# Altium integrated library Altera FLEX 10K.IntLib: 292 symbols (part 12 of 37)
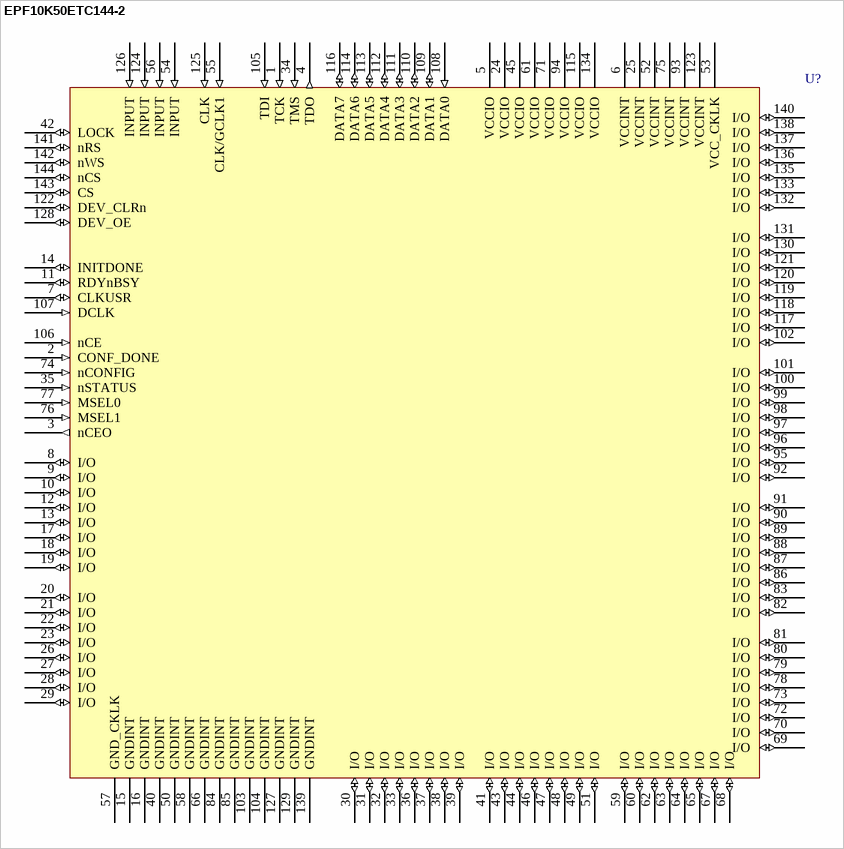
[diagram p410: symbol EPF10K50ETC144-2]

## EPF10K50ETC144-2
designator U?
FLEX EPF10K50E 2.5V Embedded PLD, 102 User IO Pins, 144-Pin TQFP, Speed Grade 2, Commercial Grade; Published: 17-Jul-2002; LatestRevisionDate: 13-Apr-2006; LatestRevisionNote: IPC-7351 Footprint Added.; DatasheetVersion: ver2.5, Jan-2003; PackageVersion: ver14.1, Oct-2005; PackageReference: TQFP144; Publisher: Altium Limited; PackageDescription: 144-Pin Plastic Thin Quad Flat Pack (TQFP144); Code_JEDEC: MS-026-BFB; ComponentLink1Description: Manufacturer Link; ComponentLink1URL: http://www.altera.com/products/devices/flex10k/f10-index.html; ComponentLink2Description: Datasheet; ComponentLink2URL: http://www.altera.com/literature/ds/dsf10ke.pdf
footprint TQFP144_N (Thin QFP, 144-Leads, Body 20x20mm, Pitch 0.5mm, IPC Medium Density)
footprint TQFP144_L (Thin QFP, 144-Leads, Body 20x20mm, Pitch 0.5mm, IPC High Density)
footprint TQFP144_M (Thin QFP, 144-Leads, Body 20x20mm, Pitch 0.5mm, IPC Low Density)
3D model EPF10K50E-TQFP144 (144-Pin Plastic Thin Quad Flat Pack (TQFP144))
pins: 1 TCK (in), 2 CONF_DONE (in), 3 nCEO (out), 4 TDO (out), 5 VCCIO (power), 6 VCCINT (power), 7 CLKUSR (io), 8 I/O (io), 9 I/O (io), 10 I/O (io), 11 RDYnBSY (io), 12 I/O (io), 13 I/O (io), 14 INITDONE (io), 15 GNDINT (power), 16 GNDINT (power), 17 I/O (io), 18 I/O (io), 19 I/O (io), 20 I/O (io), 21 I/O (io), 22 I/O (io), 23 I/O (io), 24 VCCIO (power), 25 VCCINT (power), 26 I/O (io), 27 I/O (io), 28 I/O (io), 29 I/O (io), 30 I/O (io), 31 I/O (io), 32 I/O (io), 33 I/O (io), 34 TMS (in), 35 nSTATUS (in), 36 I/O (io), 37 I/O (io), 38 I/O (io), 39 I/O (io), 40 GNDINT (power), 41 I/O (io), 42 LOCK (io), 43 I/O (io), 44 I/O (io), 45 VCCIO (power), 46 I/O (io), 47 I/O (io), 48 I/O (io), 49 I/O (io), 50 GNDINT (power), 51 I/O (io), 52 VCCINT (power), 53 VCC_CKLK (power), 54 INPUT (in), 55 CLK/GCLK1 (in), 56 INPUT (in), 57 GND_CKLK (power), 58 GNDINT (power), 59 I/O (io), 60 I/O (io), 61 VCCIO (power), 62 I/O (io), 63 I/O (io), 64 I/O (io), 65 I/O (io), 66 GNDINT (power), 67 I/O (io), 68 I/O (io), 69 I/O (io), 70 I/O (io), 71 VCCIO (power), 72 I/O (io), 73 I/O (io), 74 nCONFIG (in), 75 VCCINT (power), 76 MSEL1 (in), 77 MSEL0 (in), 78 I/O (io), 79 I/O (io), 80 I/O (io), 81 I/O (io), 82 I/O (io), 83 I/O (io), 84 GNDINT (power), 85 GNDINT (power), 86 I/O (io), 87 I/O (io), 88 I/O (io), 89 I/O (io), 90 I/O (io), 91 I/O (io), 92 I/O (io), 93 VCCINT (power), 94 VCCIO (power), 95 I/O (io), 96 I/O (io), 97 I/O (io), 98 I/O (io), 99 I/O (io), 100 I/O (io), 101 I/O (io), 102 I/O (io), 103 GNDINT (power), 104 GNDINT (power), 105 TDI (in), 106 nCE (in), 107 DCLK (in), 108 DATA0 (in), 109 DATA1 (io), 110 DATA2 (io), 111 DATA3 (io), 112 DATA4 (io), 113 DATA5 (io), 114 DATA6 (io), 115 VCCIO (power), 116 DATA7 (io), 117 I/O (io), 118 I/O (io), 119 I/O (io), 120 I/O (io), 121 I/O (io), 122 DEV_CLRn (io), 123 VCCINT (power), 124 INPUT (in), 125 CLK (in), 126 INPUT (in), 127 GNDINT (power), 128 DEV_OE (io), 129 GNDINT (power), 130 I/O (io), 131 I/O (io), 132 I/O (io), 133 I/O (io), 134 VCCIO (power), 135 I/O (io), 136 I/O (io), 137 I/O (io), 138 I/O (io), 139 GNDINT (power), 140 I/O (io), 141 nRS (io), 142 nWS (io), 143 CS (io), 144 nCS (io)

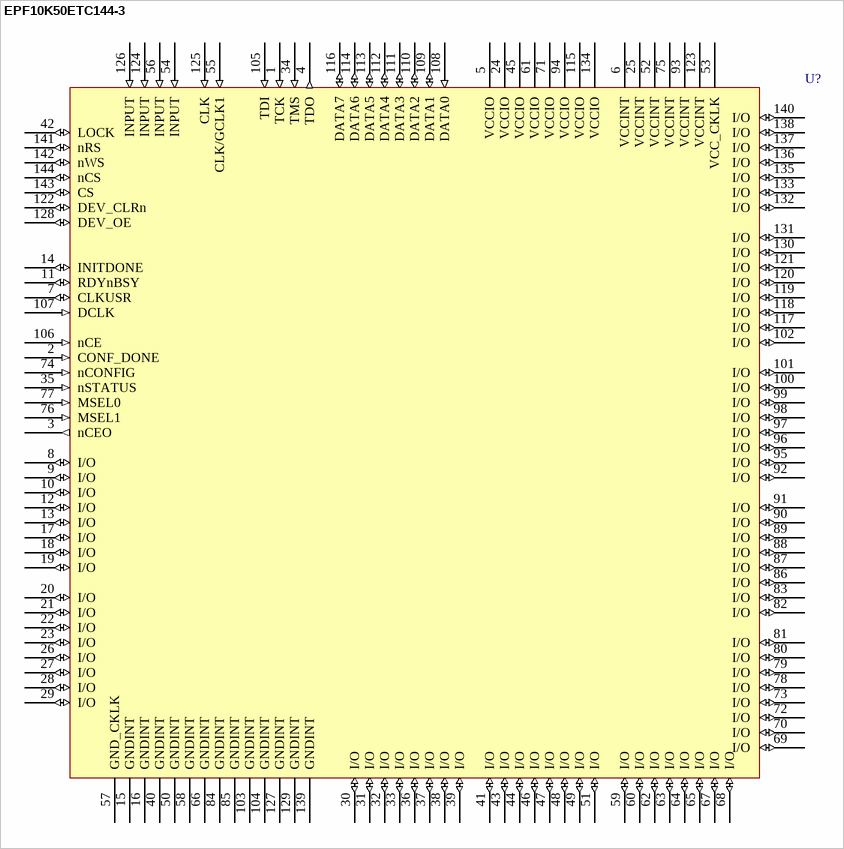
[diagram p113: symbol EPF10K50ETC144-3]

## EPF10K50ETC144-3
designator U?
FLEX EPF10K50E 2.5V Embedded PLD, 102 User IO Pins, 144-Pin TQFP, Speed Grade 3, Commercial Grade; Published: 17-Jul-2002; LatestRevisionDate: 13-Apr-2006; LatestRevisionNote: IPC-7351 Footprint Added.; DatasheetVersion: ver2.5, Jan-2003; PackageVersion: ver14.1, Oct-2005; PackageReference: TQFP144; Publisher: Altium Limited; PackageDescription: 144-Pin Plastic Thin Quad Flat Pack (TQFP144); Code_JEDEC: MS-026-BFB; ComponentLink1Description: Manufacturer Link; ComponentLink1URL: http://www.altera.com/products/devices/flex10k/f10-index.html; ComponentLink2Description: Datasheet; ComponentLink2URL: http://www.altera.com/literature/ds/dsf10ke.pdf
footprint TQFP144_N (Thin QFP, 144-Leads, Body 20x20mm, Pitch 0.5mm, IPC Medium Density)
footprint TQFP144_L (Thin QFP, 144-Leads, Body 20x20mm, Pitch 0.5mm, IPC High Density)
footprint TQFP144_M (Thin QFP, 144-Leads, Body 20x20mm, Pitch 0.5mm, IPC Low Density)
3D model EPF10K50E-TQFP144 (144-Pin Plastic Thin Quad Flat Pack (TQFP144))
pins: 1 TCK (in), 2 CONF_DONE (in), 3 nCEO (out), 4 TDO (out), 5 VCCIO (power), 6 VCCINT (power), 7 CLKUSR (io), 8 I/O (io), 9 I/O (io), 10 I/O (io), 11 RDYnBSY (io), 12 I/O (io), 13 I/O (io), 14 INITDONE (io), 15 GNDINT (power), 16 GNDINT (power), 17 I/O (io), 18 I/O (io), 19 I/O (io), 20 I/O (io), 21 I/O (io), 22 I/O (io), 23 I/O (io), 24 VCCIO (power), 25 VCCINT (power), 26 I/O (io), 27 I/O (io), 28 I/O (io), 29 I/O (io), 30 I/O (io), 31 I/O (io), 32 I/O (io), 33 I/O (io), 34 TMS (in), 35 nSTATUS (in), 36 I/O (io), 37 I/O (io), 38 I/O (io), 39 I/O (io), 40 GNDINT (power), 41 I/O (io), 42 LOCK (io), 43 I/O (io), 44 I/O (io), 45 VCCIO (power), 46 I/O (io), 47 I/O (io), 48 I/O (io), 49 I/O (io), 50 GNDINT (power), 51 I/O (io), 52 VCCINT (power), 53 VCC_CKLK (power), 54 INPUT (in), 55 CLK/GCLK1 (in), 56 INPUT (in), 57 GND_CKLK (power), 58 GNDINT (power), 59 I/O (io), 60 I/O (io), 61 VCCIO (power), 62 I/O (io), 63 I/O (io), 64 I/O (io), 65 I/O (io), 66 GNDINT (power), 67 I/O (io), 68 I/O (io), 69 I/O (io), 70 I/O (io), 71 VCCIO (power), 72 I/O (io), 73 I/O (io), 74 nCONFIG (in), 75 VCCINT (power), 76 MSEL1 (in), 77 MSEL0 (in), 78 I/O (io), 79 I/O (io), 80 I/O (io), 81 I/O (io), 82 I/O (io), 83 I/O (io), 84 GNDINT (power), 85 GNDINT (power), 86 I/O (io), 87 I/O (io), 88 I/O (io), 89 I/O (io), 90 I/O (io), 91 I/O (io), 92 I/O (io), 93 VCCINT (power), 94 VCCIO (power), 95 I/O (io), 96 I/O (io), 97 I/O (io), 98 I/O (io), 99 I/O (io), 100 I/O (io), 101 I/O (io), 102 I/O (io), 103 GNDINT (power), 104 GNDINT (power), 105 TDI (in), 106 nCE (in), 107 DCLK (in), 108 DATA0 (in), 109 DATA1 (io), 110 DATA2 (io), 111 DATA3 (io), 112 DATA4 (io), 113 DATA5 (io), 114 DATA6 (io), 115 VCCIO (power), 116 DATA7 (io), 117 I/O (io), 118 I/O (io), 119 I/O (io), 120 I/O (io), 121 I/O (io), 122 DEV_CLRn (io), 123 VCCINT (power), 124 INPUT (in), 125 CLK (in), 126 INPUT (in), 127 GNDINT (power), 128 DEV_OE (io), 129 GNDINT (power), 130 I/O (io), 131 I/O (io), 132 I/O (io), 133 I/O (io), 134 VCCIO (power), 135 I/O (io), 136 I/O (io), 137 I/O (io), 138 I/O (io), 139 GNDINT (power), 140 I/O (io), 141 nRS (io), 142 nWS (io), 143 CS (io), 144 nCS (io)

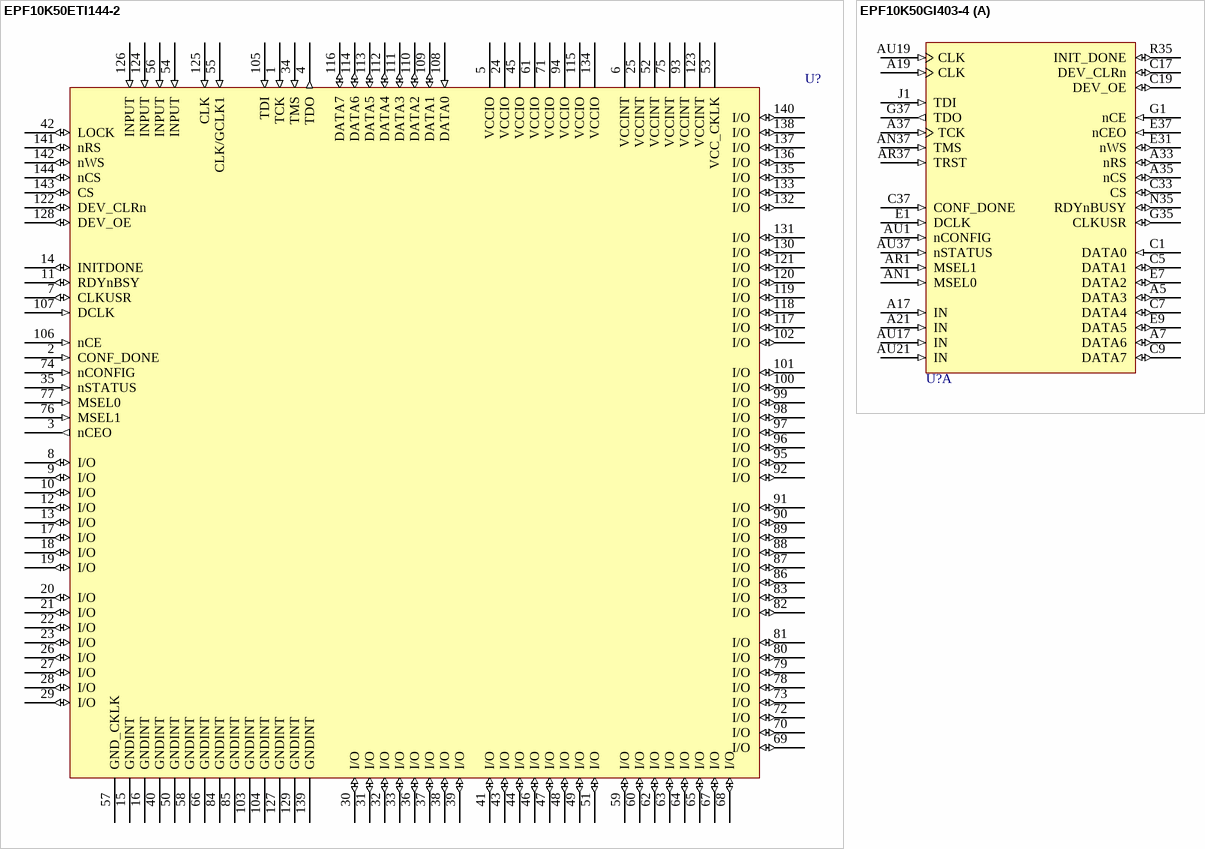
[diagram p114: symbols EPF10K50ETI144-2 to EPF10K50GI403-4]

## EPF10K50ETI144-2
designator U?
FLEX EPF10K50E 2.5V Embedded PLD, 102 User IO Pins, 144-Pin TQFP, Speed Grade 2, Industrial Grade; Published: 17-Jul-2002; LatestRevisionDate: 13-Apr-2006; LatestRevisionNote: IPC-7351 Footprint Added.; DatasheetVersion: ver2.5, Jan-2003; PackageVersion: ver14.1, Oct-2005; PackageReference: TQFP144; Publisher: Altium Limited; PackageDescription: 144-Pin Plastic Thin Quad Flat Pack (TQFP144); Code_JEDEC: MS-026-BFB; ComponentLink1Description: Manufacturer Link; ComponentLink1URL: http://www.altera.com/products/devices/flex10k/f10-index.html; ComponentLink2Description: Datasheet; ComponentLink2URL: http://www.altera.com/literature/ds/dsf10ke.pdf
footprint TQFP144_N (Thin QFP, 144-Leads, Body 20x20mm, Pitch 0.5mm, IPC Medium Density)
footprint TQFP144_L (Thin QFP, 144-Leads, Body 20x20mm, Pitch 0.5mm, IPC High Density)
footprint TQFP144_M (Thin QFP, 144-Leads, Body 20x20mm, Pitch 0.5mm, IPC Low Density)
3D model EPF10K50E-TQFP144 (144-Pin Plastic Thin Quad Flat Pack (TQFP144))
pins: 1 TCK (in), 2 CONF_DONE (in), 3 nCEO (out), 4 TDO (out), 5 VCCIO (power), 6 VCCINT (power), 7 CLKUSR (io), 8 I/O (io), 9 I/O (io), 10 I/O (io), 11 RDYnBSY (io), 12 I/O (io), 13 I/O (io), 14 INITDONE (io), 15 GNDINT (power), 16 GNDINT (power), 17 I/O (io), 18 I/O (io), 19 I/O (io), 20 I/O (io), 21 I/O (io), 22 I/O (io), 23 I/O (io), 24 VCCIO (power), 25 VCCINT (power), 26 I/O (io), 27 I/O (io), 28 I/O (io), 29 I/O (io), 30 I/O (io), 31 I/O (io), 32 I/O (io), 33 I/O (io), 34 TMS (in), 35 nSTATUS (in), 36 I/O (io), 37 I/O (io), 38 I/O (io), 39 I/O (io), 40 GNDINT (power), 41 I/O (io), 42 LOCK (io), 43 I/O (io), 44 I/O (io), 45 VCCIO (power), 46 I/O (io), 47 I/O (io), 48 I/O (io), 49 I/O (io), 50 GNDINT (power), 51 I/O (io), 52 VCCINT (power), 53 VCC_CKLK (power), 54 INPUT (in), 55 CLK/GCLK1 (in), 56 INPUT (in), 57 GND_CKLK (power), 58 GNDINT (power), 59 I/O (io), 60 I/O (io), 61 VCCIO (power), 62 I/O (io), 63 I/O (io), 64 I/O (io), 65 I/O (io), 66 GNDINT (power), 67 I/O (io), 68 I/O (io), 69 I/O (io), 70 I/O (io), 71 VCCIO (power), 72 I/O (io), 73 I/O (io), 74 nCONFIG (in), 75 VCCINT (power), 76 MSEL1 (in), 77 MSEL0 (in), 78 I/O (io), 79 I/O (io), 80 I/O (io), 81 I/O (io), 82 I/O (io), 83 I/O (io), 84 GNDINT (power), 85 GNDINT (power), 86 I/O (io), 87 I/O (io), 88 I/O (io), 89 I/O (io), 90 I/O (io), 91 I/O (io), 92 I/O (io), 93 VCCINT (power), 94 VCCIO (power), 95 I/O (io), 96 I/O (io), 97 I/O (io), 98 I/O (io), 99 I/O (io), 100 I/O (io), 101 I/O (io), 102 I/O (io), 103 GNDINT (power), 104 GNDINT (power), 105 TDI (in), 106 nCE (in), 107 DCLK (in), 108 DATA0 (in), 109 DATA1 (io), 110 DATA2 (io), 111 DATA3 (io), 112 DATA4 (io), 113 DATA5 (io), 114 DATA6 (io), 115 VCCIO (power), 116 DATA7 (io), 117 I/O (io), 118 I/O (io), 119 I/O (io), 120 I/O (io), 121 I/O (io), 122 DEV_CLRn (io), 123 VCCINT (power), 124 INPUT (in), 125 CLK (in), 126 INPUT (in), 127 GNDINT (power), 128 DEV_OE (io), 129 GNDINT (power), 130 I/O (io), 131 I/O (io), 132 I/O (io), 133 I/O (io), 134 VCCIO (power), 135 I/O (io), 136 I/O (io), 137 I/O (io), 138 I/O (io), 139 GNDINT (power), 140 I/O (io), 141 nRS (io), 142 nWS (io), 143 CS (io), 144 nCS (io)

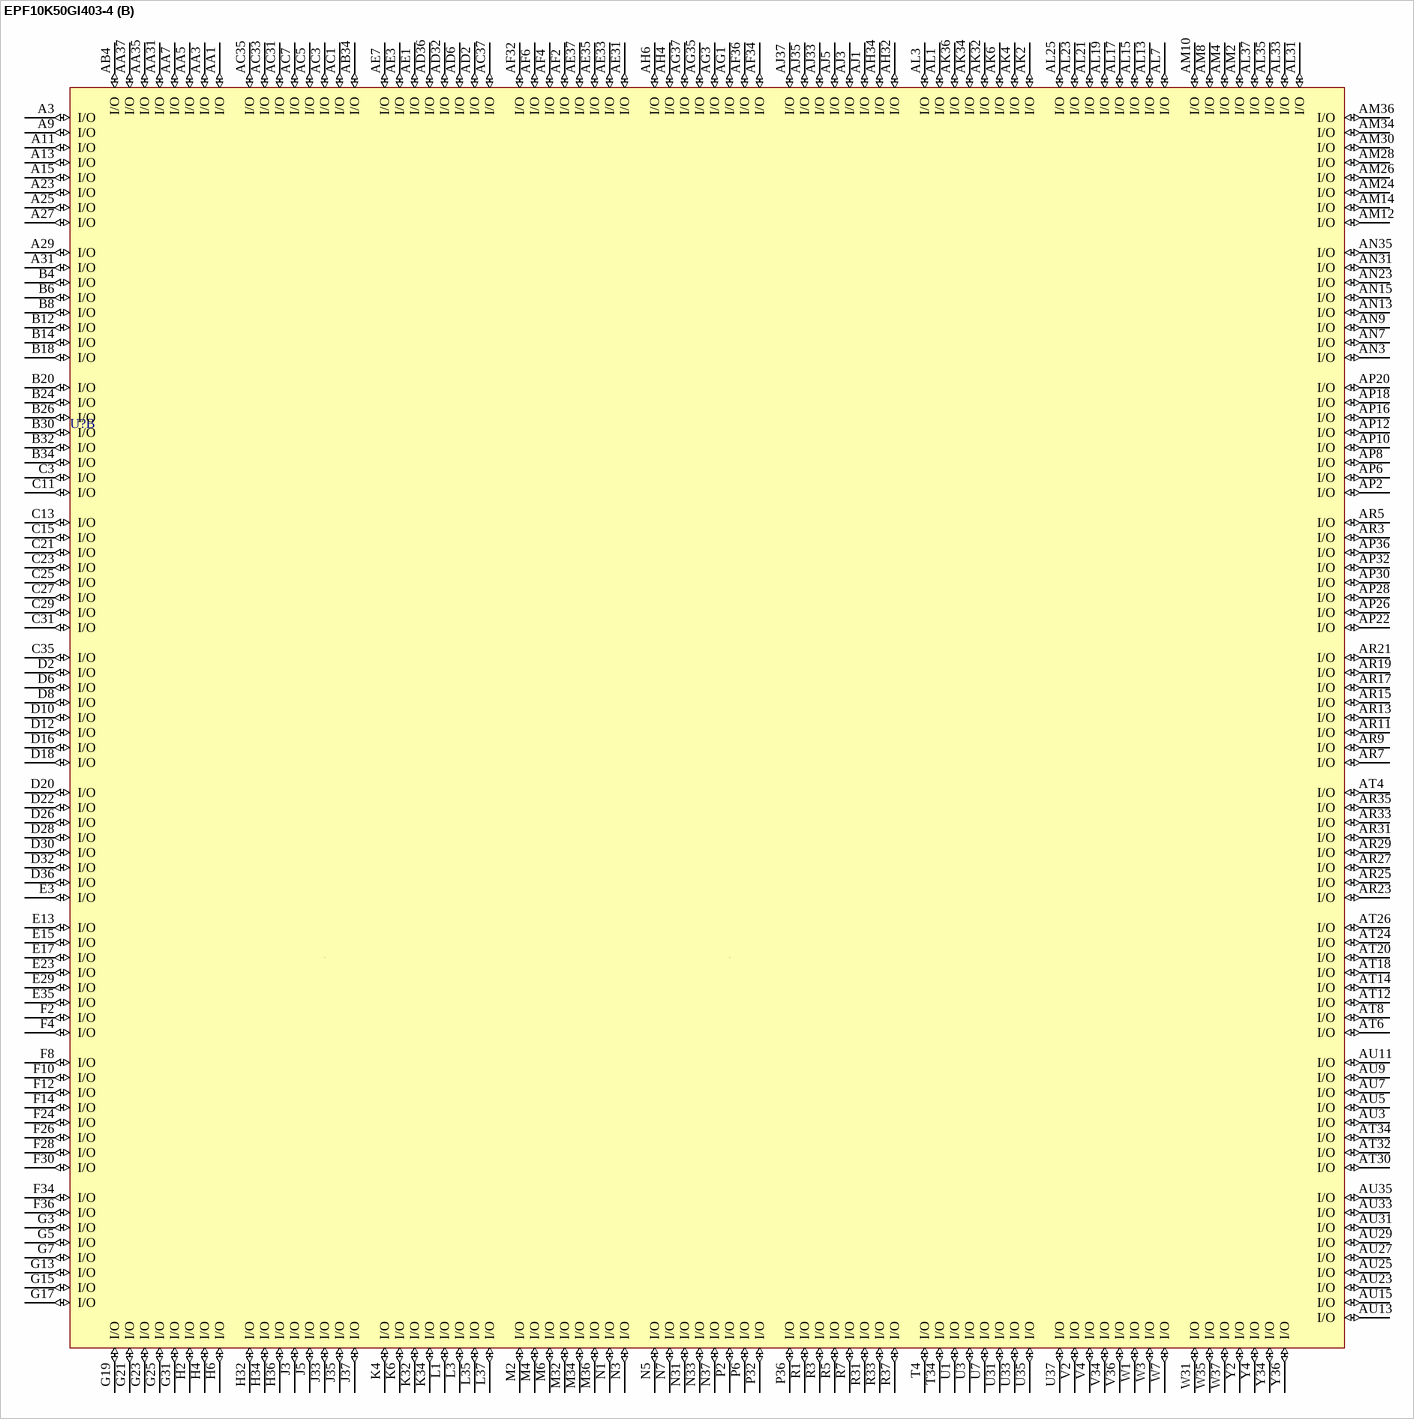
[diagram p115: symbol EPF10K50GI403-4]

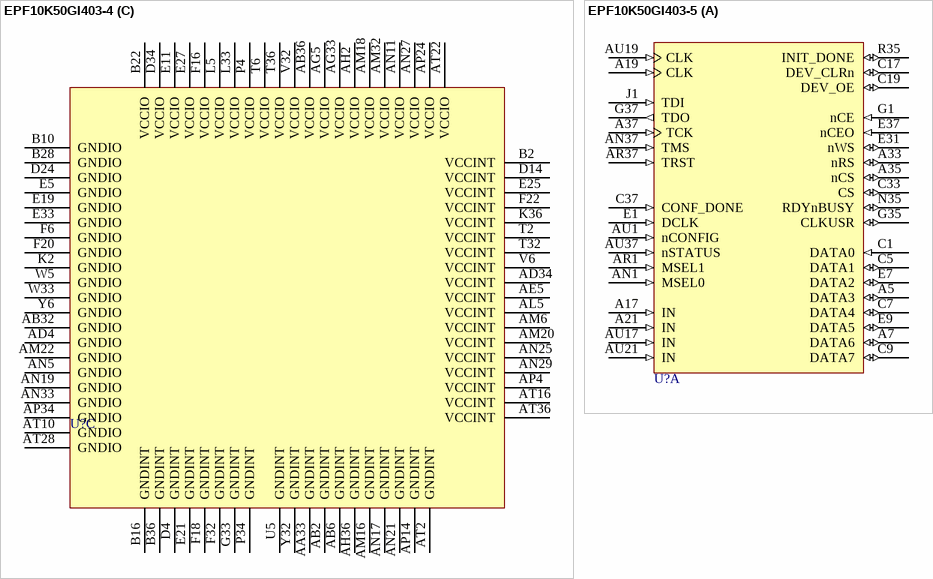
[diagram p116: symbols EPF10K50GI403-4 to EPF10K50GI403-5]

## EPF10K50GI403-4
designator U?
FLEX EPF10K50 5.0V Embedded PLD, 310 User IO Pins, 403-Pin PGA, Speed Grade 4, Industrial Grade; Published: 24-Nov-2000; LatestRevisionDate: 17-Jul-2002; LatestRevisionNote: Re-released for DXP Platform.; DatasheetVersion: Jun-1996; PackageVersion: ver14.1, Oct-2005; PackageReference: PGA403; Publisher: Altium Limited; PackageDescription: 403-Pin Ceramic Pin Grid Array (PGA403); Code_JEDEC: MO-128-AL; ComponentLink1Description: Manufacturer Link; ComponentLink1URL: http://www.altera.com/products/devices/flex10k/f10-index.html; ComponentLink2Description: Datasheet; ComponentLink2URL: http://www.altera.com/literature/ds/dsf10k.pdf
footprint PGA403 (PGA, 402-Leads, Body 50x50mm, Pitch 2.54mm)
3D model EPF10K50-PGA403 (403-Pin Ceramic Pin Grid Array (PGA403))
part A pins: A5 DATA3 (io), A7 DATA6 (io), A17 IN (in), A19 CLK (in), A21 IN (in), A33 nRS (io), A35 nCS (io), A37 TCK (in), AN1 MSEL0 (in), AN37 TMS (in), AR1 MSEL1 (in), AR37 TRST (in), AU1 nCONFIG (in), AU17 IN (in), AU19 CLK (in), AU21 IN (in), AU37 nSTATUS (in), C1 DATA0 (in), C5 DATA1 (io), C7 DATA4 (io), C9 DATA7 (io), C17 DEV_CLRn (io), C19 DEV_OE (io), C33 CS (io), C37 CONF_DONE (in), E1 DCLK (in), E7 DATA2 (io), E9 DATA5 (io), E31 nWS (io), E37 nCEO (in), G1 nCE (in), G35 CLKUSR (io), G37 TDO (out), J1 TDI (in), N35 RDYnBUSY (io), R35 INIT_DONE (io)
part B pins: A3 I/O (io), A9 I/O (io), A11 I/O (io), A13 I/O (io), A15 I/O (io), A23 I/O (io), A25 I/O (io), A27 I/O (io), A29 I/O (io), A31 I/O (io), AA1 I/O (io), AA3 I/O (io), AA5 I/O (io), AA7 I/O (io), AA31 I/O (io), AA35 I/O (io), AA37 I/O (io), AB4 I/O (io), AB34 I/O (io), AC1 I/O (io), AC3 I/O (io), AC5 I/O (io), AC7 I/O (io), AC31 I/O (io), AC33 I/O (io), AC35 I/O (io), AC37 I/O (io), AD2 I/O (io), AD6 I/O (io), AD32 I/O (io), AD36 I/O (io), AE1 I/O (io), AE3 I/O (io), AE7 I/O (io), AE31 I/O (io), AE33 I/O (io), AE35 I/O (io), AE37 I/O (io), AF2 I/O (io), AF4 I/O (io), AF6 I/O (io), AF32 I/O (io), AF34 I/O (io), AF36 I/O (io), AG1 I/O (io), AG3 I/O (io), AG35 I/O (io), AG37 I/O (io), AH4 I/O (io), AH6 I/O (io), AH32 I/O (io), AH34 I/O (io), AJ1 I/O (io), AJ3 I/O (io), AJ5 I/O (io), AJ33 I/O (io), AJ35 I/O (io), AJ37 I/O (io), AK2 I/O (io), AK4 I/O (io), AK6 I/O (io), AK32 I/O (io), AK34 I/O (io), AK36 I/O (io), AL1 I/O (io), AL3 I/O (io), AL7 I/O (io), AL13 I/O (io), AL15 I/O (io), AL17 I/O (io), AL19 I/O (io), AL21 I/O (io), AL23 I/O (io), AL25 I/O (io), AL31 I/O (io), AL33 I/O (io), AL35 I/O (io), AL37 I/O (io), AM2 I/O (io), AM4 I/O (io), AM8 I/O (io), AM10 I/O (io), AM12 I/O (io), AM14 I/O (io), AM24 I/O (io), AM26 I/O (io), AM28 I/O (io), AM30 I/O (io), AM34 I/O (io), AM36 I/O (io), AN3 I/O (io), AN7 I/O (io), AN9 I/O (io), AN13 I/O (io), AN15 I/O (io), AN23 I/O (io), AN31 I/O (io), AN35 I/O (io), AP2 I/O (io), AP6 I/O (io), AP8 I/O (io), AP10 I/O (io), AP12 I/O (io), AP16 I/O (io), AP18 I/O (io), AP20 I/O (io), AP22 I/O (io), AP26 I/O (io), AP28 I/O (io), AP30 I/O (io), AP32 I/O (io), AP36 I/O (io), AR3 I/O (io), AR5 I/O (io), AR7 I/O (io), AR9 I/O (io), AR11 I/O (io), AR13 I/O (io), AR15 I/O (io), AR17 I/O (io), AR19 I/O (io), AR21 I/O (io), AR23 I/O (io), AR25 I/O (io), AR27 I/O (io), AR29 I/O (io), AR31 I/O (io), AR33 I/O (io), AR35 I/O (io), AT4 I/O (io), AT6 I/O (io), AT8 I/O (io), AT12 I/O (io), AT14 I/O (io), AT18 I/O (io), AT20 I/O (io), AT24 I/O (io), AT26 I/O (io), AT30 I/O (io), AT32 I/O (io), AT34 I/O (io), AU3 I/O (io), AU5 I/O (io), AU7 I/O (io), AU9 I/O (io), AU11 I/O (io), AU13 I/O (io), AU15 I/O (io), AU23 I/O (io), AU25 I/O (io), AU27 I/O (io), AU29 I/O (io), AU31 I/O (io), AU33 I/O (io), AU35 I/O (io), B4 I/O (io), B6 I/O (io), B8 I/O (io), B12 I/O (io), B14 I/O (io), B18 I/O (io), B20 I/O (io), B24 I/O (io), B26 I/O (io), B30 I/O (io), B32 I/O (io), B34 I/O (io), C3 I/O (io), C11 I/O (io), C13 I/O (io), C15 I/O (io), C21 I/O (io), C23 I/O (io), C25 I/O (io), C27 I/O (io), C29 I/O (io), C31 I/O (io), C35 I/O (io), D2 I/O (io), D6 I/O (io), D8 I/O (io), D10 I/O (io), D12 I/O (io), D16 I/O (io), D18 I/O (io), D20 I/O (io), D22 I/O (io), D26 I/O (io), D28 I/O (io), D30 I/O (io), D32 I/O (io), D36 I/O (io), E3 I/O (io), E13 I/O (io), E15 I/O (io), E17 I/O (io), E23 I/O (io), E29 I/O (io), E35 I/O (io), F2 I/O (io), F4 I/O (io), F8 I/O (io), F10 I/O (io), F12 I/O (io), F14 I/O (io), F24 I/O (io), F26 I/O (io), F28 I/O (io), F30 I/O (io), F34 I/O (io), F36 I/O (io), G3 I/O (io), G5 I/O (io), G7 I/O (io), G13 I/O (io), G15 I/O (io), G17 I/O (io), G19 I/O (io), G21 I/O (io), G23 I/O (io), G25 I/O (io), G31 I/O (io), H2 I/O (io), H4 I/O (io), H6 I/O (io), H32 I/O (io), H34 I/O (io), H36 I/O (io), J3 I/O (io), J5 I/O (io), J33 I/O (io), J35 I/O (io), J37 I/O (io), K4 I/O (io), K6 I/O (io), K32 I/O (io), K34 I/O (io), L1 I/O (io), L3 I/O (io), L35 I/O (io), L37 I/O (io), M2 I/O (io), M4 I/O (io), M6 I/O (io), M32 I/O (io), M34 I/O (io), M36 I/O (io), N1 I/O (io), N3 I/O (io), N5 I/O (io), N7 I/O (io), N31 I/O (io), N33 I/O (io), N37 I/O (io), P2 I/O (io), P6 I/O (io), P32 I/O (io), P36 I/O (io), R1 I/O (io), R3 I/O (io), R5 I/O (io), R7 I/O (io), R31 I/O (io), R33 I/O (io), R37 I/O (io), T4 I/O (io), T34 I/O (io), U1 I/O (io), U3 I/O (io), U7 I/O (io), U31 I/O (io), U33 I/O (io), U35 I/O (io), U37 I/O (io), V2 I/O (io), V4 I/O (io), V34 I/O (io), V36 I/O (io), W1 I/O (io), W3 I/O (io), W7 I/O (io), W31 I/O (io), W35 I/O (io), W37 I/O (io), Y2 I/O (io), Y4 I/O (io), Y34 I/O (io), Y36 I/O (io)
part C pins: AA33 GNDINT (power), AB2 GNDINT (power), AB6 GNDINT (power), AB32 GNDIO (power), AB36 VCCIO (power), AD4 GNDIO (power), AD34 VCCINT (power), AE5 VCCINT (power), AG5 VCCIO (power), AG33 VCCIO (power), AH2 VCCIO (power), AH36 GNDINT (power), AL5 VCCINT (power), AM6 VCCINT (power), AM16 GNDINT (power), AM18 VCCIO (power), AM20 VCCINT (power), AM22 GNDIO (power), AM32 VCCIO (power), AN5 GNDIO (power), AN11 VCCIO (power), AN17 GNDINT (power), AN19 GNDIO (power), AN21 GNDINT (power), AN25 VCCINT (power), AN27 VCCIO (power), AN29 VCCINT (power), AN33 GNDIO (power), AP4 VCCINT (power), AP14 GNDINT (power), AP24 VCCIO (power), AP34 GNDIO (power), AT2 GNDINT (power), AT10 GNDIO (power), AT16 VCCINT (power), AT22 VCCIO (power), AT28 GNDIO (power), AT36 VCCINT (power), B2 VCCINT (power), B10 GNDIO (power), B16 GNDINT (power), B22 VCCIO (power), B28 GNDIO (power), B36 GNDINT (power), D4 GNDINT (power), D14 VCCINT (power), D24 GNDIO (power), D34 VCCIO (power), E5 GNDIO (power), E11 VCCIO (power), E19 GNDIO (power), E21 GNDINT (power), E25 VCCINT (power), E27 VCCIO (power), E33 GNDIO (power), F6 GNDIO (power), F16 VCCIO (power), F18 GNDINT (power), F20 GNDIO (power), F22 VCCINT (power), F32 GNDINT (power), G33 GNDINT (power), K2 GNDIO (power), K36 VCCINT (power), L5 VCCIO (power), L33 VCCIO (power), P4 VCCIO (power), P34 GNDINT (power), T2 VCCINT (power), T6 VCCIO (power), T32 VCCINT (power), T36 VCCIO (power), U5 GNDINT (power), V6 VCCINT (power), V32 VCCIO (power), W5 GNDIO (power), W33 GNDIO (power), Y6 GNDIO (power), Y32 GNDINT (power)

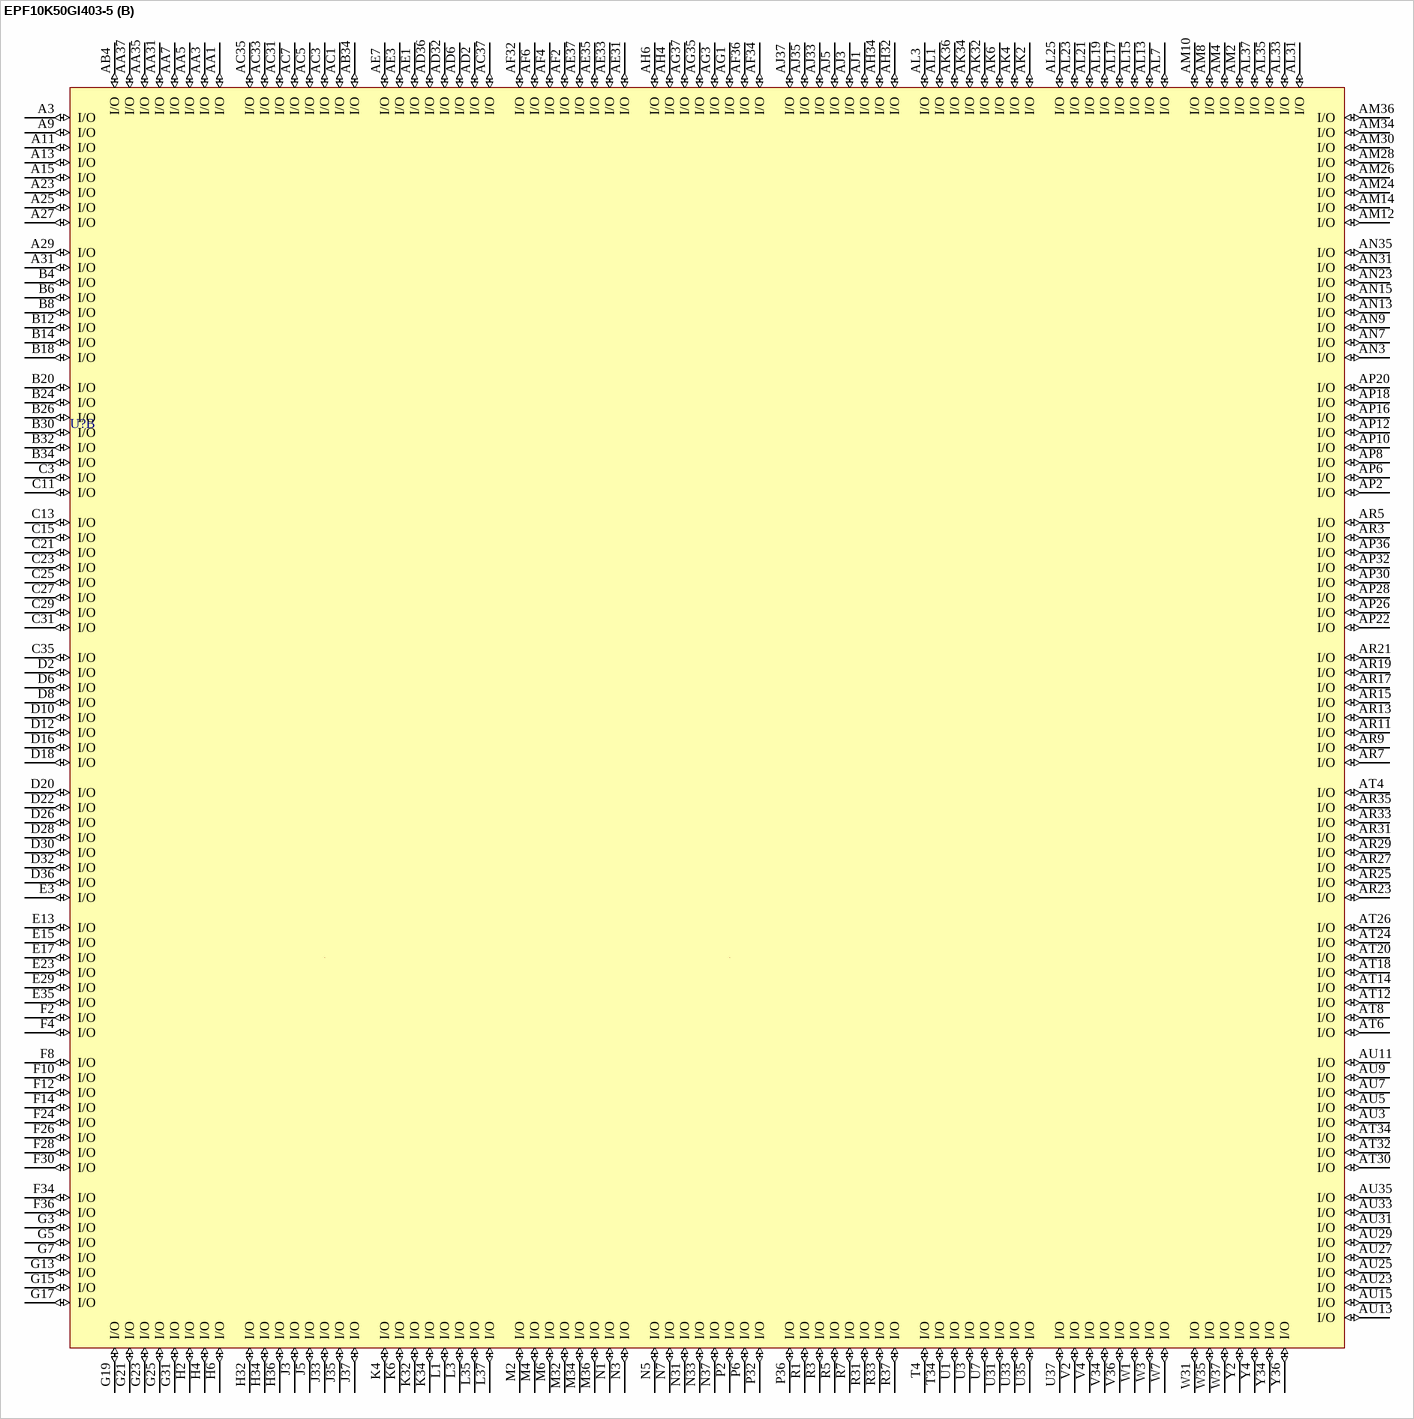
[diagram p117: symbol EPF10K50GI403-5]

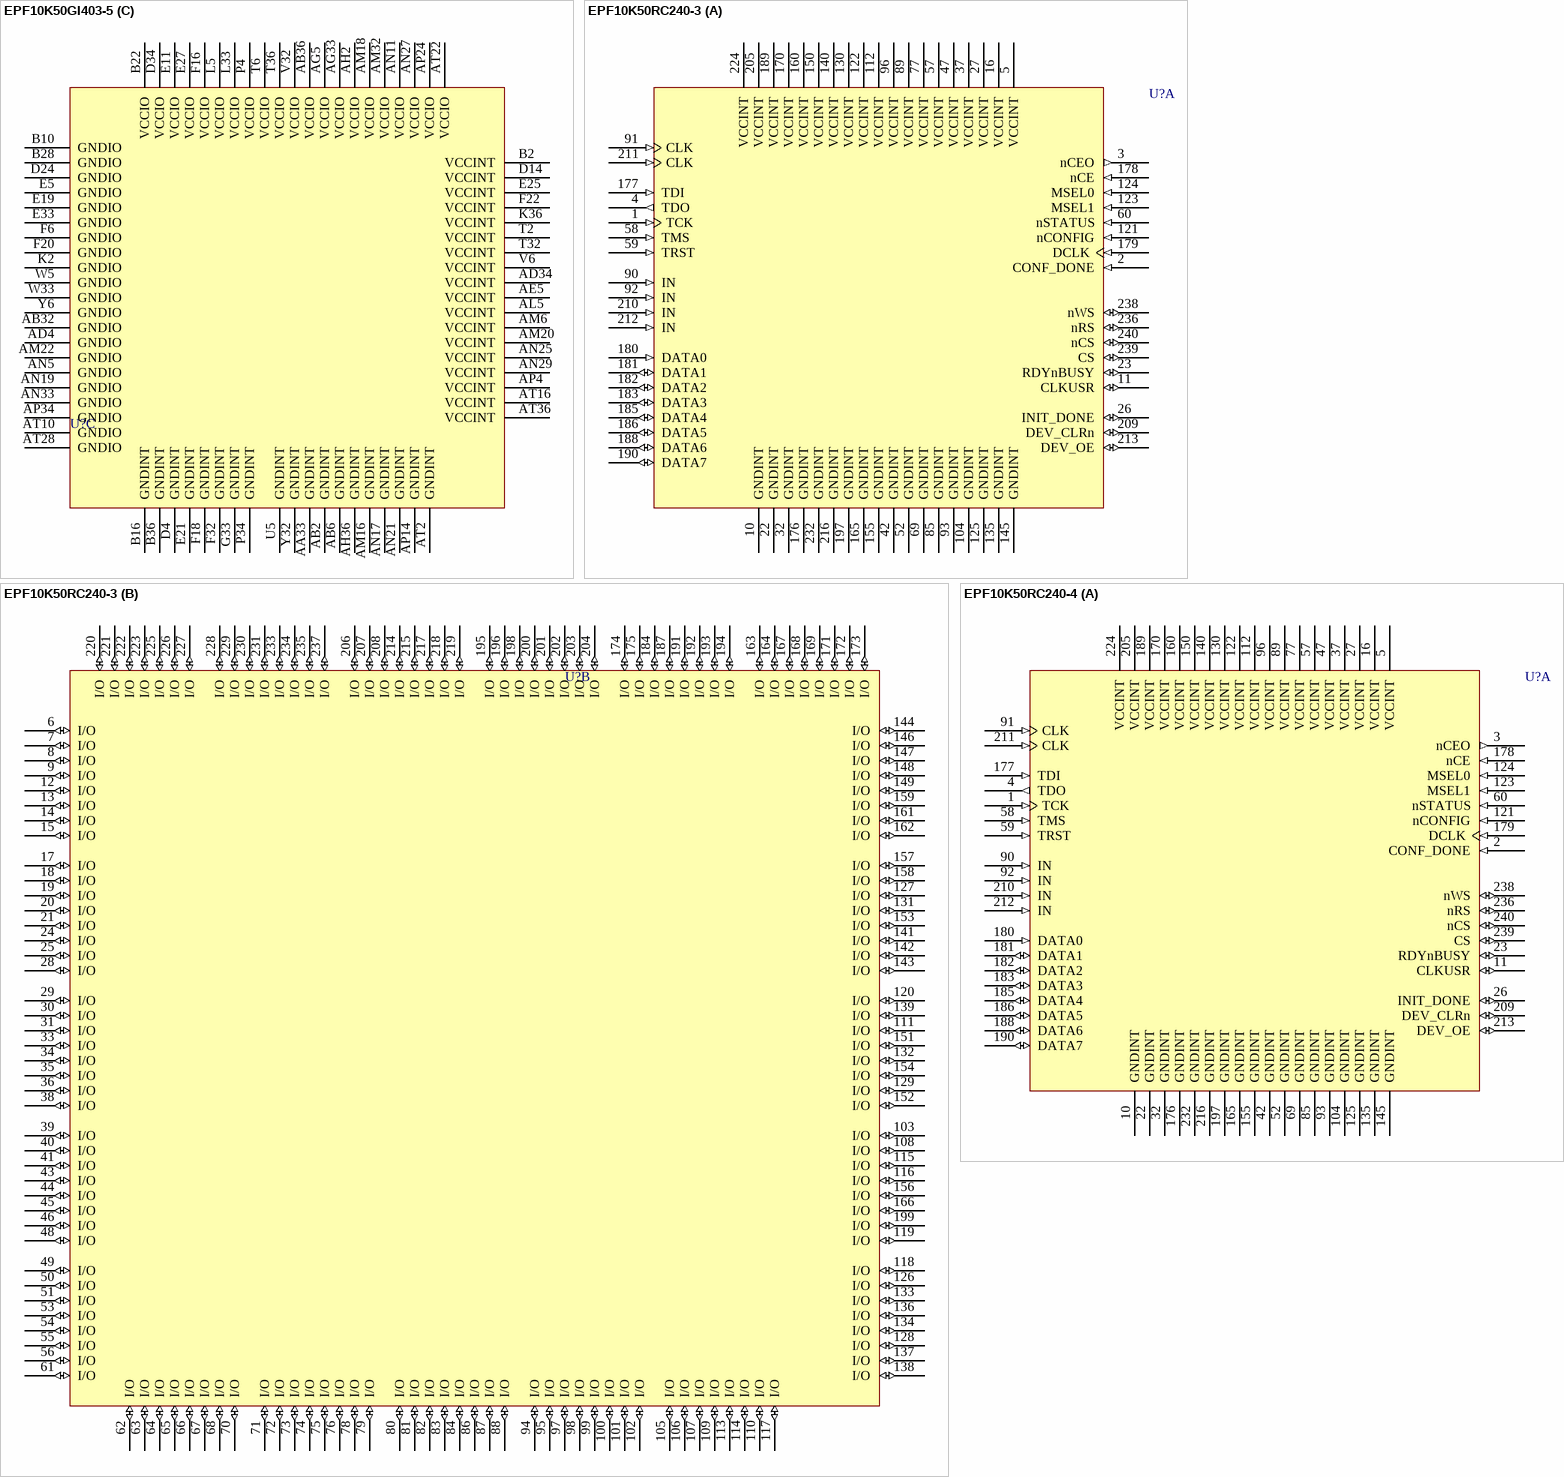
[diagram p118: symbols EPF10K50GI403-5 to EPF10K50RC240-4]

## EPF10K50GI403-5
designator U?
FLEX EPF10K50 5.0V Embedded PLD, 310 User IO Pins, 403-Pin PGA, Speed Grade 5, Industrial Grade; Published: 24-Nov-2000; LatestRevisionDate: 17-Jul-2002; LatestRevisionNote: Re-released for DXP Platform.; DatasheetVersion: Jun-1996; PackageVersion: ver14.1, Oct-2005; PackageReference: PGA403; Publisher: Altium Limited; PackageDescription: 403-Pin Ceramic Pin Grid Array (PGA403); Code_JEDEC: MO-128-AL; ComponentLink1Description: Manufacturer Link; ComponentLink1URL: http://www.altera.com/products/devices/flex10k/f10-index.html; ComponentLink2Description: Datasheet; ComponentLink2URL: http://www.altera.com/literature/ds/dsf10k.pdf
footprint PGA403 (PGA, 402-Leads, Body 50x50mm, Pitch 2.54mm)
3D model EPF10K50-PGA403 (403-Pin Ceramic Pin Grid Array (PGA403))
part A pins: A5 DATA3 (io), A7 DATA6 (io), A17 IN (in), A19 CLK (in), A21 IN (in), A33 nRS (io), A35 nCS (io), A37 TCK (in), AN1 MSEL0 (in), AN37 TMS (in), AR1 MSEL1 (in), AR37 TRST (in), AU1 nCONFIG (in), AU17 IN (in), AU19 CLK (in), AU21 IN (in), AU37 nSTATUS (in), C1 DATA0 (in), C5 DATA1 (io), C7 DATA4 (io), C9 DATA7 (io), C17 DEV_CLRn (io), C19 DEV_OE (io), C33 CS (io), C37 CONF_DONE (in), E1 DCLK (in), E7 DATA2 (io), E9 DATA5 (io), E31 nWS (io), E37 nCEO (in), G1 nCE (in), G35 CLKUSR (io), G37 TDO (out), J1 TDI (in), N35 RDYnBUSY (io), R35 INIT_DONE (io)
part B pins: A3 I/O (io), A9 I/O (io), A11 I/O (io), A13 I/O (io), A15 I/O (io), A23 I/O (io), A25 I/O (io), A27 I/O (io), A29 I/O (io), A31 I/O (io), AA1 I/O (io), AA3 I/O (io), AA5 I/O (io), AA7 I/O (io), AA31 I/O (io), AA35 I/O (io), AA37 I/O (io), AB4 I/O (io), AB34 I/O (io), AC1 I/O (io), AC3 I/O (io), AC5 I/O (io), AC7 I/O (io), AC31 I/O (io), AC33 I/O (io), AC35 I/O (io), AC37 I/O (io), AD2 I/O (io), AD6 I/O (io), AD32 I/O (io), AD36 I/O (io), AE1 I/O (io), AE3 I/O (io), AE7 I/O (io), AE31 I/O (io), AE33 I/O (io), AE35 I/O (io), AE37 I/O (io), AF2 I/O (io), AF4 I/O (io), AF6 I/O (io), AF32 I/O (io), AF34 I/O (io), AF36 I/O (io), AG1 I/O (io), AG3 I/O (io), AG35 I/O (io), AG37 I/O (io), AH4 I/O (io), AH6 I/O (io), AH32 I/O (io), AH34 I/O (io), AJ1 I/O (io), AJ3 I/O (io), AJ5 I/O (io), AJ33 I/O (io), AJ35 I/O (io), AJ37 I/O (io), AK2 I/O (io), AK4 I/O (io), AK6 I/O (io), AK32 I/O (io), AK34 I/O (io), AK36 I/O (io), AL1 I/O (io), AL3 I/O (io), AL7 I/O (io), AL13 I/O (io), AL15 I/O (io), AL17 I/O (io), AL19 I/O (io), AL21 I/O (io), AL23 I/O (io), AL25 I/O (io), AL31 I/O (io), AL33 I/O (io), AL35 I/O (io), AL37 I/O (io), AM2 I/O (io), AM4 I/O (io), AM8 I/O (io), AM10 I/O (io), AM12 I/O (io), AM14 I/O (io), AM24 I/O (io), AM26 I/O (io), AM28 I/O (io), AM30 I/O (io), AM34 I/O (io), AM36 I/O (io), AN3 I/O (io), AN7 I/O (io), AN9 I/O (io), AN13 I/O (io), AN15 I/O (io), AN23 I/O (io), AN31 I/O (io), AN35 I/O (io), AP2 I/O (io), AP6 I/O (io), AP8 I/O (io), AP10 I/O (io), AP12 I/O (io), AP16 I/O (io), AP18 I/O (io), AP20 I/O (io), AP22 I/O (io), AP26 I/O (io), AP28 I/O (io), AP30 I/O (io), AP32 I/O (io), AP36 I/O (io), AR3 I/O (io), AR5 I/O (io), AR7 I/O (io), AR9 I/O (io), AR11 I/O (io), AR13 I/O (io), AR15 I/O (io), AR17 I/O (io), AR19 I/O (io), AR21 I/O (io), AR23 I/O (io), AR25 I/O (io), AR27 I/O (io), AR29 I/O (io), AR31 I/O (io), AR33 I/O (io), AR35 I/O (io), AT4 I/O (io), AT6 I/O (io), AT8 I/O (io), AT12 I/O (io), AT14 I/O (io), AT18 I/O (io), AT20 I/O (io), AT24 I/O (io), AT26 I/O (io), AT30 I/O (io), AT32 I/O (io), AT34 I/O (io), AU3 I/O (io), AU5 I/O (io), AU7 I/O (io), AU9 I/O (io), AU11 I/O (io), AU13 I/O (io), AU15 I/O (io), AU23 I/O (io), AU25 I/O (io), AU27 I/O (io), AU29 I/O (io), AU31 I/O (io), AU33 I/O (io), AU35 I/O (io), B4 I/O (io), B6 I/O (io), B8 I/O (io), B12 I/O (io), B14 I/O (io), B18 I/O (io), B20 I/O (io), B24 I/O (io), B26 I/O (io), B30 I/O (io), B32 I/O (io), B34 I/O (io), C3 I/O (io), C11 I/O (io), C13 I/O (io), C15 I/O (io), C21 I/O (io), C23 I/O (io), C25 I/O (io), C27 I/O (io), C29 I/O (io), C31 I/O (io), C35 I/O (io), D2 I/O (io), D6 I/O (io), D8 I/O (io), D10 I/O (io), D12 I/O (io), D16 I/O (io), D18 I/O (io), D20 I/O (io), D22 I/O (io), D26 I/O (io), D28 I/O (io), D30 I/O (io), D32 I/O (io), D36 I/O (io), E3 I/O (io), E13 I/O (io), E15 I/O (io), E17 I/O (io), E23 I/O (io), E29 I/O (io), E35 I/O (io), F2 I/O (io), F4 I/O (io), F8 I/O (io), F10 I/O (io), F12 I/O (io), F14 I/O (io), F24 I/O (io), F26 I/O (io), F28 I/O (io), F30 I/O (io), F34 I/O (io), F36 I/O (io), G3 I/O (io), G5 I/O (io), G7 I/O (io), G13 I/O (io), G15 I/O (io), G17 I/O (io), G19 I/O (io), G21 I/O (io), G23 I/O (io), G25 I/O (io), G31 I/O (io), H2 I/O (io), H4 I/O (io), H6 I/O (io), H32 I/O (io), H34 I/O (io), H36 I/O (io), J3 I/O (io), J5 I/O (io), J33 I/O (io), J35 I/O (io), J37 I/O (io), K4 I/O (io), K6 I/O (io), K32 I/O (io), K34 I/O (io), L1 I/O (io), L3 I/O (io), L35 I/O (io), L37 I/O (io), M2 I/O (io), M4 I/O (io), M6 I/O (io), M32 I/O (io), M34 I/O (io), M36 I/O (io), N1 I/O (io), N3 I/O (io), N5 I/O (io), N7 I/O (io), N31 I/O (io), N33 I/O (io), N37 I/O (io), P2 I/O (io), P6 I/O (io), P32 I/O (io), P36 I/O (io), R1 I/O (io), R3 I/O (io), R5 I/O (io), R7 I/O (io), R31 I/O (io), R33 I/O (io), R37 I/O (io), T4 I/O (io), T34 I/O (io), U1 I/O (io), U3 I/O (io), U7 I/O (io), U31 I/O (io), U33 I/O (io), U35 I/O (io), U37 I/O (io), V2 I/O (io), V4 I/O (io), V34 I/O (io), V36 I/O (io), W1 I/O (io), W3 I/O (io), W7 I/O (io), W31 I/O (io), W35 I/O (io), W37 I/O (io), Y2 I/O (io), Y4 I/O (io), Y34 I/O (io), Y36 I/O (io)
part C pins: AA33 GNDINT (power), AB2 GNDINT (power), AB6 GNDINT (power), AB32 GNDIO (power), AB36 VCCIO (power), AD4 GNDIO (power), AD34 VCCINT (power), AE5 VCCINT (power), AG5 VCCIO (power), AG33 VCCIO (power), AH2 VCCIO (power), AH36 GNDINT (power), AL5 VCCINT (power), AM6 VCCINT (power), AM16 GNDINT (power), AM18 VCCIO (power), AM20 VCCINT (power), AM22 GNDIO (power), AM32 VCCIO (power), AN5 GNDIO (power), AN11 VCCIO (power), AN17 GNDINT (power), AN19 GNDIO (power), AN21 GNDINT (power), AN25 VCCINT (power), AN27 VCCIO (power), AN29 VCCINT (power), AN33 GNDIO (power), AP4 VCCINT (power), AP14 GNDINT (power), AP24 VCCIO (power), AP34 GNDIO (power), AT2 GNDINT (power), AT10 GNDIO (power), AT16 VCCINT (power), AT22 VCCIO (power), AT28 GNDIO (power), AT36 VCCINT (power), B2 VCCINT (power), B10 GNDIO (power), B16 GNDINT (power), B22 VCCIO (power), B28 GNDIO (power), B36 GNDINT (power), D4 GNDINT (power), D14 VCCINT (power), D24 GNDIO (power), D34 VCCIO (power), E5 GNDIO (power), E11 VCCIO (power), E19 GNDIO (power), E21 GNDINT (power), E25 VCCINT (power), E27 VCCIO (power), E33 GNDIO (power), F6 GNDIO (power), F16 VCCIO (power), F18 GNDINT (power), F20 GNDIO (power), F22 VCCINT (power), F32 GNDINT (power), G33 GNDINT (power), K2 GNDIO (power), K36 VCCINT (power), L5 VCCIO (power), L33 VCCIO (power), P4 VCCIO (power), P34 GNDINT (power), T2 VCCINT (power), T6 VCCIO (power), T32 VCCINT (power), T36 VCCIO (power), U5 GNDINT (power), V6 VCCINT (power), V32 VCCIO (power), W5 GNDIO (power), W33 GNDIO (power), Y6 GNDIO (power), Y32 GNDINT (power)

## EPF10K50RC240-3
designator U?
FLEX EPF10K50 5.0V Embedded PLD, 189 User IO Pins, 240-Pin RQFP, Speed Grade 3, Commercial Grade; Published: 24-Nov-2000; LatestRevisionDate: 13-Apr-2006; LatestRevisionNote: IPC-7351 Footprint Added.; DatasheetVersion: ver4.2, Jan-2003; PackageVersion: ver14.1, Oct-2005; PackageReference: RQFP240; Publisher: Altium Limited; PackageDescription: 240-Pin Power Quad Flat Pack (RQFP240); Code_JEDEC: MS-029-GA; ComponentLink1Description: Manufacturer Link; ComponentLink1URL: http://www.altera.com/products/devices/flex10k/f10-index.html; ComponentLink2Description: Datasheet; ComponentLink2URL: http://www.altera.com/literature/ds/dsf10k.pdf
footprint RQFP240_N (Shrink QFP, 240-Leads, Body 32x32mm, Pitch 0.5mm, IPC Medium Density)
footprint RQFP240_L (Shrink QFP, 240-Leads, Body 32x32mm, Pitch 0.5mm, IPC High Density)
footprint RQFP240_M (Shrink QFP, 240-Leads, Body 32x32mm, Pitch 0.5mm, IPC Low Density)
3D model EPF10K50-RQFP240 (240-Pin Power Quad Flat Pack (RQFP240))
part A pins: 1 TCK (in), 2 CONF_DONE (in), 3 nCEO (out), 4 TDO (out), 5 VCCINT (power), 10 GNDINT (power), 11 CLKUSR (io), 16 VCCINT (power), 22 GNDINT (power), 23 RDYnBUSY (io), 26 INIT_DONE (io), 27 VCCINT (power), 32 GNDINT (power), 37 VCCINT (power), 42 GNDINT (power), 47 VCCINT (power), 52 GNDINT (power), 57 VCCINT (power), 58 TMS (in), 59 TRST (in), 60 nSTATUS (in), 69 GNDINT (power), 77 VCCINT (power), 85 GNDINT (power), 89 VCCINT (power), 90 IN (in), 91 CLK (in), 92 IN (in), 93 GNDINT (power), 96 VCCINT (power), 104 GNDINT (power), 112 VCCINT (power), 121 nCONFIG (in), 122 VCCINT (power), 123 MSEL1 (in), 124 MSEL0 (in), 125 GNDINT (power), 130 VCCINT (power), 135 GNDINT (power), 140 VCCINT (power), 145 GNDINT (power), 150 VCCINT (power), 155 GNDINT (power), 160 VCCINT (power), 165 GNDINT (power), 170 VCCINT (power), 176 GNDINT (power), 177 TDI (in), 178 nCE (in), 179 DCLK (in), 180 DATA0 (in), 181 DATA1 (io), 182 DATA2 (io), 183 DATA3 (io), 185 DATA4 (io), 186 DATA5 (io), 188 DATA6 (io), 189 VCCINT (power), 190 DATA7 (io), 197 GNDINT (power), 205 VCCINT (power), 209 DEV_CLRn (io), 210 IN (in), 211 CLK (in), 212 IN (in), 213 DEV_OE (io), 216 GNDINT (power), 224 VCCINT (power), 232 GNDINT (power), 236 nRS (io), 238 nWS (io), 239 CS (io), 240 nCS (io)
part B pins: 6 I/O (io), 7 I/O (io), 8 I/O (io), 9 I/O (io), 12 I/O (io), 13 I/O (io), 14 I/O (io), 15 I/O (io), 17 I/O (io), 18 I/O (io), 19 I/O (io), 20 I/O (io), 21 I/O (io), 24 I/O (io), 25 I/O (io), 28 I/O (io), 29 I/O (io), 30 I/O (io), 31 I/O (io), 33 I/O (io), 34 I/O (io), 35 I/O (io), 36 I/O (io), 38 I/O (io), 39 I/O (io), 40 I/O (io), 41 I/O (io), 43 I/O (io), 44 I/O (io), 45 I/O (io), 46 I/O (io), 48 I/O (io), 49 I/O (io), 50 I/O (io), 51 I/O (io), 53 I/O (io), 54 I/O (io), 55 I/O (io), 56 I/O (io), 61 I/O (io), 62 I/O (io), 63 I/O (io), 64 I/O (io), 65 I/O (io), 66 I/O (io), 67 I/O (io), 68 I/O (io), 70 I/O (io), 71 I/O (io), 72 I/O (io), 73 I/O (io), 74 I/O (io), 75 I/O (io), 76 I/O (io), 78 I/O (io), 79 I/O (io), 80 I/O (io), 81 I/O (io), 82 I/O (io), 83 I/O (io), 84 I/O (io), 86 I/O (io), 87 I/O (io), 88 I/O (io), 94 I/O (io), 95 I/O (io), 97 I/O (io), 98 I/O (io), 99 I/O (io), 100 I/O (io), 101 I/O (io), 102 I/O (io), 103 I/O (io), 105 I/O (io), 106 I/O (io), 107 I/O (io), 108 I/O (io), 109 I/O (io), 110 I/O (io), 111 I/O (io), 113 I/O (io), 114 I/O (io), 115 I/O (io), 116 I/O (io), 117 I/O (io), 118 I/O (io), 119 I/O (io), 120 I/O (io), 126 I/O (io), 127 I/O (io), 128 I/O (io), 129 I/O (io), 131 I/O (io), 132 I/O (io), 133 I/O (io), 134 I/O (io), 136 I/O (io), 137 I/O (io), 138 I/O (io), 139 I/O (io), 141 I/O (io), 142 I/O (io), 143 I/O (io), 144 I/O (io), 146 I/O (io), 147 I/O (io), 148 I/O (io), 149 I/O (io), 151 I/O (io), 152 I/O (io), 153 I/O (io), 154 I/O (io), 156 I/O (io), 157 I/O (io), 158 I/O (io), 159 I/O (io), 161 I/O (io), 162 I/O (io), 163 I/O (io), 164 I/O (io), 166 I/O (io), 167 I/O (io), 168 I/O (io), 169 I/O (io), 171 I/O (io), 172 I/O (io), 173 I/O (io), 174 I/O (io), 175 I/O (io), 184 I/O (io), 187 I/O (io), 191 I/O (io), 192 I/O (io), 193 I/O (io), 194 I/O (io), 195 I/O (io), 196 I/O (io), 198 I/O (io), 199 I/O (io), 200 I/O (io), 201 I/O (io), 202 I/O (io), 203 I/O (io), 204 I/O (io), 206 I/O (io), 207 I/O (io), 208 I/O (io), 214 I/O (io), 215 I/O (io), 217 I/O (io), 218 I/O (io), 219 I/O (io), 220 I/O (io), 221 I/O (io), 222 I/O (io), 223 I/O (io), 225 I/O (io), 226 I/O (io), 227 I/O (io), 228 I/O (io), 229 I/O (io), 230 I/O (io), 231 I/O (io), 233 I/O (io), 234 I/O (io), 235 I/O (io), 237 I/O (io)

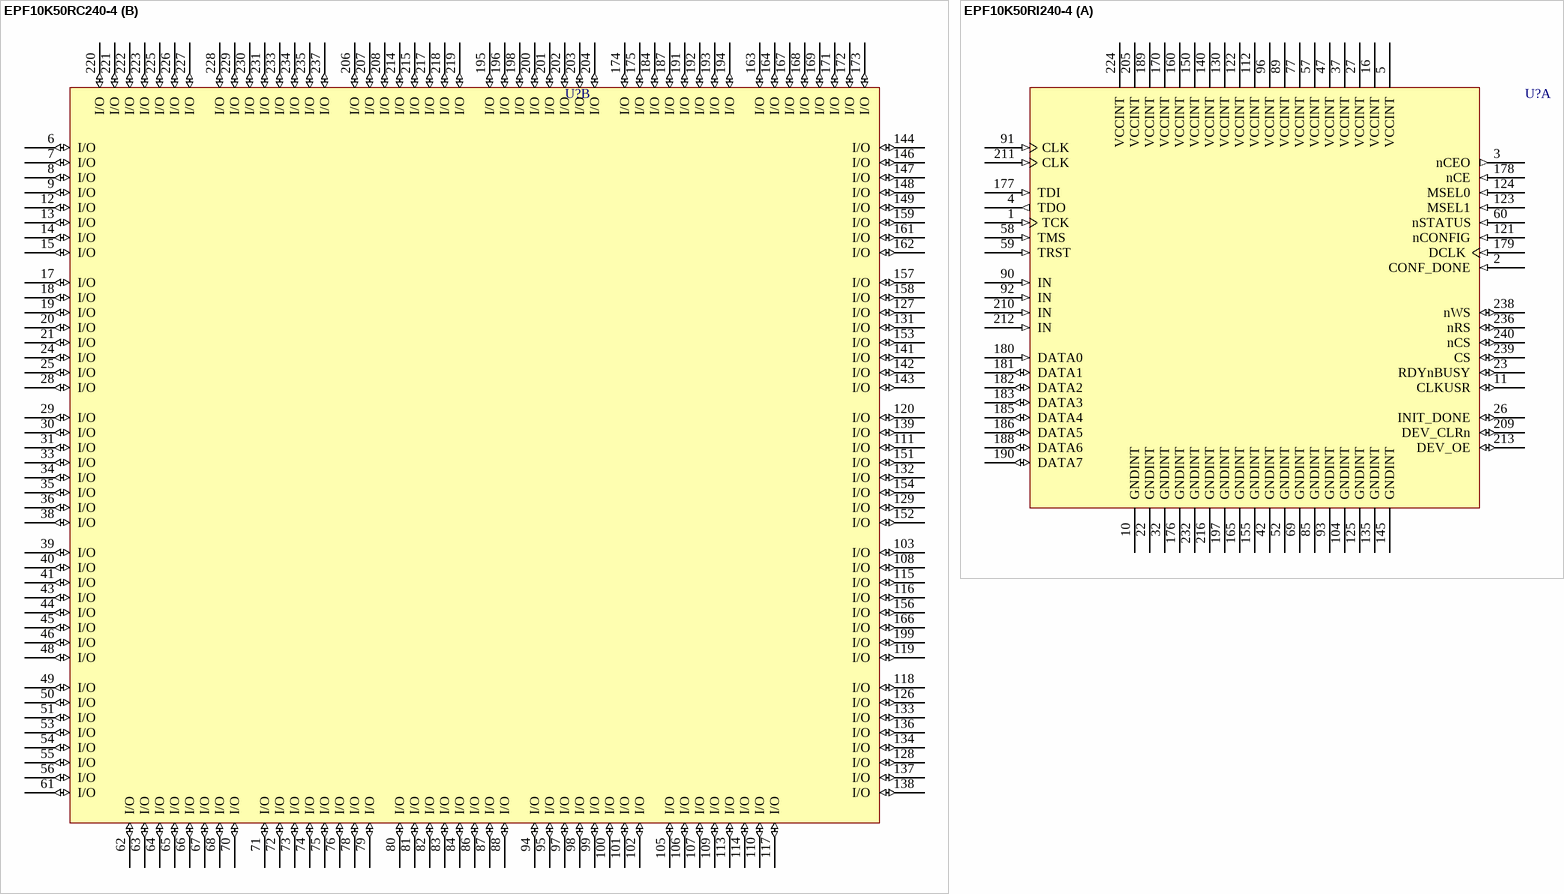
[diagram p119: symbols EPF10K50RC240-4 to EPF10K50RI240-4]

## EPF10K50RC240-4
designator U?
FLEX EPF10K50 5.0V Embedded PLD, 189 User IO Pins, 240-Pin RQFP, Speed Grade 4, Commercial Grade; Published: 24-Nov-2000; LatestRevisionDate: 13-Apr-2006; LatestRevisionNote: IPC-7351 Footprint Added.; DatasheetVersion: ver4.2, Jan-2003; PackageVersion: ver14.1, Oct-2005; PackageReference: RQFP240; Publisher: Altium Limited; PackageDescription: 240-Pin Power Quad Flat Pack (RQFP240); Code_JEDEC: MS-029-GA; ComponentLink1Description: Manufacturer Link; ComponentLink1URL: http://www.altera.com/products/devices/flex10k/f10-index.html; ComponentLink2Description: Datasheet; ComponentLink2URL: http://www.altera.com/literature/ds/dsf10k.pdf
footprint RQFP240_N (Shrink QFP, 240-Leads, Body 32x32mm, Pitch 0.5mm, IPC Medium Density)
footprint RQFP240_L (Shrink QFP, 240-Leads, Body 32x32mm, Pitch 0.5mm, IPC High Density)
footprint RQFP240_M (Shrink QFP, 240-Leads, Body 32x32mm, Pitch 0.5mm, IPC Low Density)
3D model EPF10K50-RQFP240 (240-Pin Power Quad Flat Pack (RQFP240))
part A pins: 1 TCK (in), 2 CONF_DONE (in), 3 nCEO (out), 4 TDO (out), 5 VCCINT (power), 10 GNDINT (power), 11 CLKUSR (io), 16 VCCINT (power), 22 GNDINT (power), 23 RDYnBUSY (io), 26 INIT_DONE (io), 27 VCCINT (power), 32 GNDINT (power), 37 VCCINT (power), 42 GNDINT (power), 47 VCCINT (power), 52 GNDINT (power), 57 VCCINT (power), 58 TMS (in), 59 TRST (in), 60 nSTATUS (in), 69 GNDINT (power), 77 VCCINT (power), 85 GNDINT (power), 89 VCCINT (power), 90 IN (in), 91 CLK (in), 92 IN (in), 93 GNDINT (power), 96 VCCINT (power), 104 GNDINT (power), 112 VCCINT (power), 121 nCONFIG (in), 122 VCCINT (power), 123 MSEL1 (in), 124 MSEL0 (in), 125 GNDINT (power), 130 VCCINT (power), 135 GNDINT (power), 140 VCCINT (power), 145 GNDINT (power), 150 VCCINT (power), 155 GNDINT (power), 160 VCCINT (power), 165 GNDINT (power), 170 VCCINT (power), 176 GNDINT (power), 177 TDI (in), 178 nCE (in), 179 DCLK (in), 180 DATA0 (in), 181 DATA1 (io), 182 DATA2 (io), 183 DATA3 (io), 185 DATA4 (io), 186 DATA5 (io), 188 DATA6 (io), 189 VCCINT (power), 190 DATA7 (io), 197 GNDINT (power), 205 VCCINT (power), 209 DEV_CLRn (io), 210 IN (in), 211 CLK (in), 212 IN (in), 213 DEV_OE (io), 216 GNDINT (power), 224 VCCINT (power), 232 GNDINT (power), 236 nRS (io), 238 nWS (io), 239 CS (io), 240 nCS (io)
part B pins: 6 I/O (io), 7 I/O (io), 8 I/O (io), 9 I/O (io), 12 I/O (io), 13 I/O (io), 14 I/O (io), 15 I/O (io), 17 I/O (io), 18 I/O (io), 19 I/O (io), 20 I/O (io), 21 I/O (io), 24 I/O (io), 25 I/O (io), 28 I/O (io), 29 I/O (io), 30 I/O (io), 31 I/O (io), 33 I/O (io), 34 I/O (io), 35 I/O (io), 36 I/O (io), 38 I/O (io), 39 I/O (io), 40 I/O (io), 41 I/O (io), 43 I/O (io), 44 I/O (io), 45 I/O (io), 46 I/O (io), 48 I/O (io), 49 I/O (io), 50 I/O (io), 51 I/O (io), 53 I/O (io), 54 I/O (io), 55 I/O (io), 56 I/O (io), 61 I/O (io), 62 I/O (io), 63 I/O (io), 64 I/O (io), 65 I/O (io), 66 I/O (io), 67 I/O (io), 68 I/O (io), 70 I/O (io), 71 I/O (io), 72 I/O (io), 73 I/O (io), 74 I/O (io), 75 I/O (io), 76 I/O (io), 78 I/O (io), 79 I/O (io), 80 I/O (io), 81 I/O (io), 82 I/O (io), 83 I/O (io), 84 I/O (io), 86 I/O (io), 87 I/O (io), 88 I/O (io), 94 I/O (io), 95 I/O (io), 97 I/O (io), 98 I/O (io), 99 I/O (io), 100 I/O (io), 101 I/O (io), 102 I/O (io), 103 I/O (io), 105 I/O (io), 106 I/O (io), 107 I/O (io), 108 I/O (io), 109 I/O (io), 110 I/O (io), 111 I/O (io), 113 I/O (io), 114 I/O (io), 115 I/O (io), 116 I/O (io), 117 I/O (io), 118 I/O (io), 119 I/O (io), 120 I/O (io), 126 I/O (io), 127 I/O (io), 128 I/O (io), 129 I/O (io), 131 I/O (io), 132 I/O (io), 133 I/O (io), 134 I/O (io), 136 I/O (io), 137 I/O (io), 138 I/O (io), 139 I/O (io), 141 I/O (io), 142 I/O (io), 143 I/O (io), 144 I/O (io), 146 I/O (io), 147 I/O (io), 148 I/O (io), 149 I/O (io), 151 I/O (io), 152 I/O (io), 153 I/O (io), 154 I/O (io), 156 I/O (io), 157 I/O (io), 158 I/O (io), 159 I/O (io), 161 I/O (io), 162 I/O (io), 163 I/O (io), 164 I/O (io), 166 I/O (io), 167 I/O (io), 168 I/O (io), 169 I/O (io), 171 I/O (io), 172 I/O (io), 173 I/O (io), 174 I/O (io), 175 I/O (io), 184 I/O (io), 187 I/O (io), 191 I/O (io), 192 I/O (io), 193 I/O (io), 194 I/O (io), 195 I/O (io), 196 I/O (io), 198 I/O (io), 199 I/O (io), 200 I/O (io), 201 I/O (io), 202 I/O (io), 203 I/O (io), 204 I/O (io), 206 I/O (io), 207 I/O (io), 208 I/O (io), 214 I/O (io), 215 I/O (io), 217 I/O (io), 218 I/O (io), 219 I/O (io), 220 I/O (io), 221 I/O (io), 222 I/O (io), 223 I/O (io), 225 I/O (io), 226 I/O (io), 227 I/O (io), 228 I/O (io), 229 I/O (io), 230 I/O (io), 231 I/O (io), 233 I/O (io), 234 I/O (io), 235 I/O (io), 237 I/O (io)

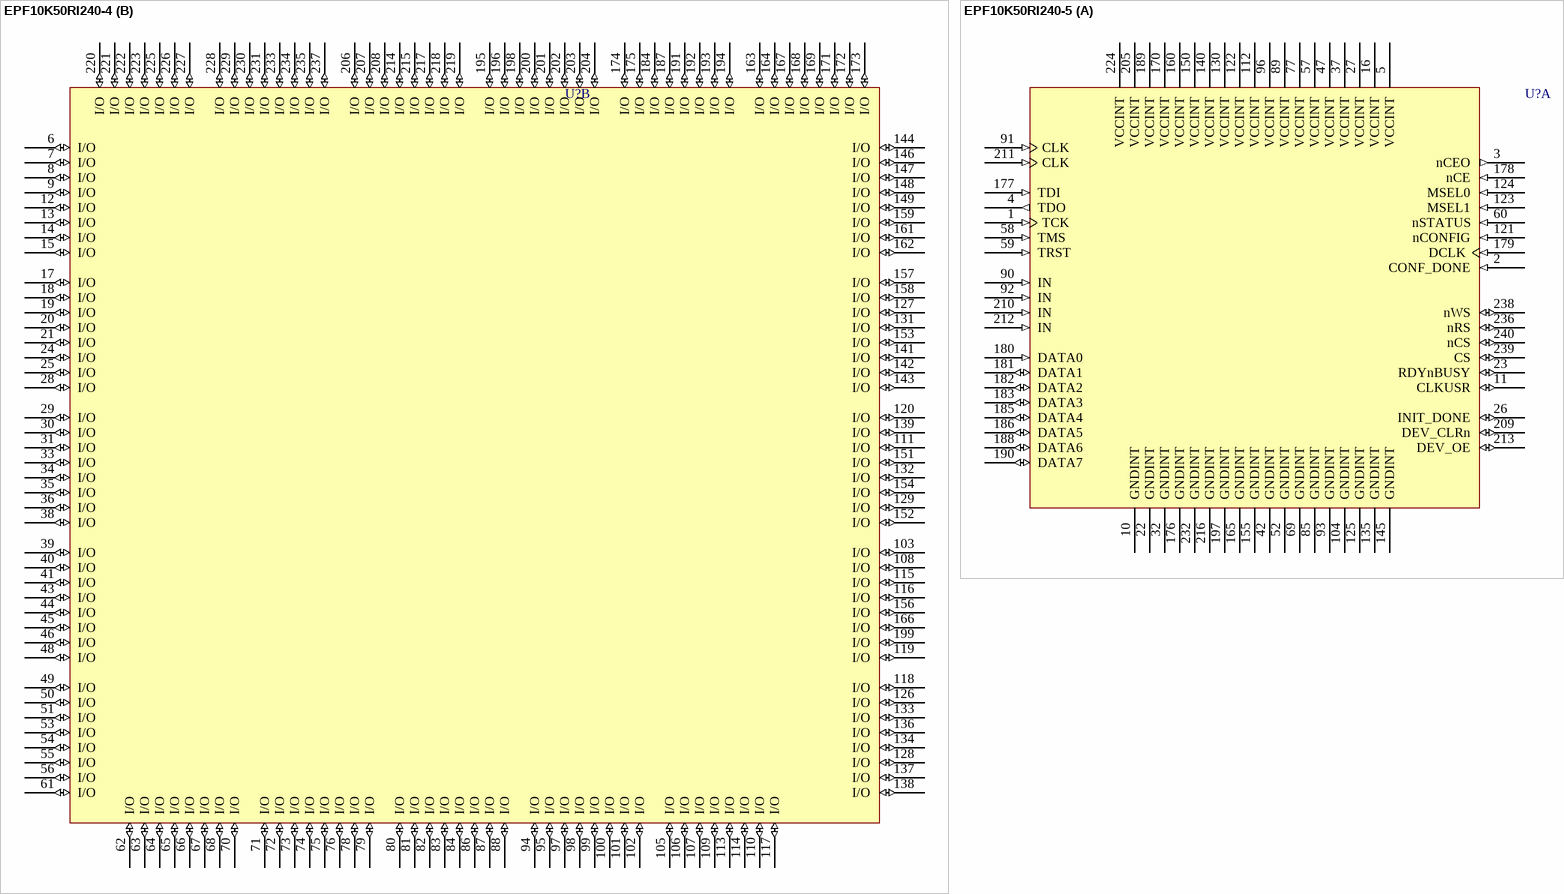
[diagram p120: symbols EPF10K50RI240-4 to EPF10K50RI240-5]

## EPF10K50RI240-4
designator U?
FLEX EPF10K50 5.0V Embedded PLD, 189 User IO Pins, 240-Pin RQFP, Speed Grade 4, Industrial Grade; Published: 24-Nov-2000; LatestRevisionDate: 13-Apr-2006; LatestRevisionNote: IPC-7351 Footprint Added.; DatasheetVersion: ver4.2, Jan-2003; PackageVersion: ver14.1, Oct-2005; PackageReference: RQFP240; Publisher: Altium Limited; PackageDescription: 240-Pin Power Quad Flat Pack (RQFP240); Code_JEDEC: MS-029-GA; ComponentLink1Description: Manufacturer Link; ComponentLink1URL: http://www.altera.com/products/devices/flex10k/f10-index.html; ComponentLink2Description: Datasheet; ComponentLink2URL: http://www.altera.com/literature/ds/dsf10k.pdf
footprint RQFP240_N (Shrink QFP, 240-Leads, Body 32x32mm, Pitch 0.5mm, IPC Medium Density)
footprint RQFP240_L (Shrink QFP, 240-Leads, Body 32x32mm, Pitch 0.5mm, IPC High Density)
footprint RQFP240_M (Shrink QFP, 240-Leads, Body 32x32mm, Pitch 0.5mm, IPC Low Density)
3D model EPF10K50-RQFP240 (240-Pin Power Quad Flat Pack (RQFP240))
part A pins: 1 TCK (in), 2 CONF_DONE (in), 3 nCEO (out), 4 TDO (out), 5 VCCINT (power), 10 GNDINT (power), 11 CLKUSR (io), 16 VCCINT (power), 22 GNDINT (power), 23 RDYnBUSY (io), 26 INIT_DONE (io), 27 VCCINT (power), 32 GNDINT (power), 37 VCCINT (power), 42 GNDINT (power), 47 VCCINT (power), 52 GNDINT (power), 57 VCCINT (power), 58 TMS (in), 59 TRST (in), 60 nSTATUS (in), 69 GNDINT (power), 77 VCCINT (power), 85 GNDINT (power), 89 VCCINT (power), 90 IN (in), 91 CLK (in), 92 IN (in), 93 GNDINT (power), 96 VCCINT (power), 104 GNDINT (power), 112 VCCINT (power), 121 nCONFIG (in), 122 VCCINT (power), 123 MSEL1 (in), 124 MSEL0 (in), 125 GNDINT (power), 130 VCCINT (power), 135 GNDINT (power), 140 VCCINT (power), 145 GNDINT (power), 150 VCCINT (power), 155 GNDINT (power), 160 VCCINT (power), 165 GNDINT (power), 170 VCCINT (power), 176 GNDINT (power), 177 TDI (in), 178 nCE (in), 179 DCLK (in), 180 DATA0 (in), 181 DATA1 (io), 182 DATA2 (io), 183 DATA3 (io), 185 DATA4 (io), 186 DATA5 (io), 188 DATA6 (io), 189 VCCINT (power), 190 DATA7 (io), 197 GNDINT (power), 205 VCCINT (power), 209 DEV_CLRn (io), 210 IN (in), 211 CLK (in), 212 IN (in), 213 DEV_OE (io), 216 GNDINT (power), 224 VCCINT (power), 232 GNDINT (power), 236 nRS (io), 238 nWS (io), 239 CS (io), 240 nCS (io)
part B pins: 6 I/O (io), 7 I/O (io), 8 I/O (io), 9 I/O (io), 12 I/O (io), 13 I/O (io), 14 I/O (io), 15 I/O (io), 17 I/O (io), 18 I/O (io), 19 I/O (io), 20 I/O (io), 21 I/O (io), 24 I/O (io), 25 I/O (io), 28 I/O (io), 29 I/O (io), 30 I/O (io), 31 I/O (io), 33 I/O (io), 34 I/O (io), 35 I/O (io), 36 I/O (io), 38 I/O (io), 39 I/O (io), 40 I/O (io), 41 I/O (io), 43 I/O (io), 44 I/O (io), 45 I/O (io), 46 I/O (io), 48 I/O (io), 49 I/O (io), 50 I/O (io), 51 I/O (io), 53 I/O (io), 54 I/O (io), 55 I/O (io), 56 I/O (io), 61 I/O (io), 62 I/O (io), 63 I/O (io), 64 I/O (io), 65 I/O (io), 66 I/O (io), 67 I/O (io), 68 I/O (io), 70 I/O (io), 71 I/O (io), 72 I/O (io), 73 I/O (io), 74 I/O (io), 75 I/O (io), 76 I/O (io), 78 I/O (io), 79 I/O (io), 80 I/O (io), 81 I/O (io), 82 I/O (io), 83 I/O (io), 84 I/O (io), 86 I/O (io), 87 I/O (io), 88 I/O (io), 94 I/O (io), 95 I/O (io), 97 I/O (io), 98 I/O (io), 99 I/O (io), 100 I/O (io), 101 I/O (io), 102 I/O (io), 103 I/O (io), 105 I/O (io), 106 I/O (io), 107 I/O (io), 108 I/O (io), 109 I/O (io), 110 I/O (io), 111 I/O (io), 113 I/O (io), 114 I/O (io), 115 I/O (io), 116 I/O (io), 117 I/O (io), 118 I/O (io), 119 I/O (io), 120 I/O (io), 126 I/O (io), 127 I/O (io), 128 I/O (io), 129 I/O (io), 131 I/O (io), 132 I/O (io), 133 I/O (io), 134 I/O (io), 136 I/O (io), 137 I/O (io), 138 I/O (io), 139 I/O (io), 141 I/O (io), 142 I/O (io), 143 I/O (io), 144 I/O (io), 146 I/O (io), 147 I/O (io), 148 I/O (io), 149 I/O (io), 151 I/O (io), 152 I/O (io), 153 I/O (io), 154 I/O (io), 156 I/O (io), 157 I/O (io), 158 I/O (io), 159 I/O (io), 161 I/O (io), 162 I/O (io), 163 I/O (io), 164 I/O (io), 166 I/O (io), 167 I/O (io), 168 I/O (io), 169 I/O (io), 171 I/O (io), 172 I/O (io), 173 I/O (io), 174 I/O (io), 175 I/O (io), 184 I/O (io), 187 I/O (io), 191 I/O (io), 192 I/O (io), 193 I/O (io), 194 I/O (io), 195 I/O (io), 196 I/O (io), 198 I/O (io), 199 I/O (io), 200 I/O (io), 201 I/O (io), 202 I/O (io), 203 I/O (io), 204 I/O (io), 206 I/O (io), 207 I/O (io), 208 I/O (io), 214 I/O (io), 215 I/O (io), 217 I/O (io), 218 I/O (io), 219 I/O (io), 220 I/O (io), 221 I/O (io), 222 I/O (io), 223 I/O (io), 225 I/O (io), 226 I/O (io), 227 I/O (io), 228 I/O (io), 229 I/O (io), 230 I/O (io), 231 I/O (io), 233 I/O (io), 234 I/O (io), 235 I/O (io), 237 I/O (io)

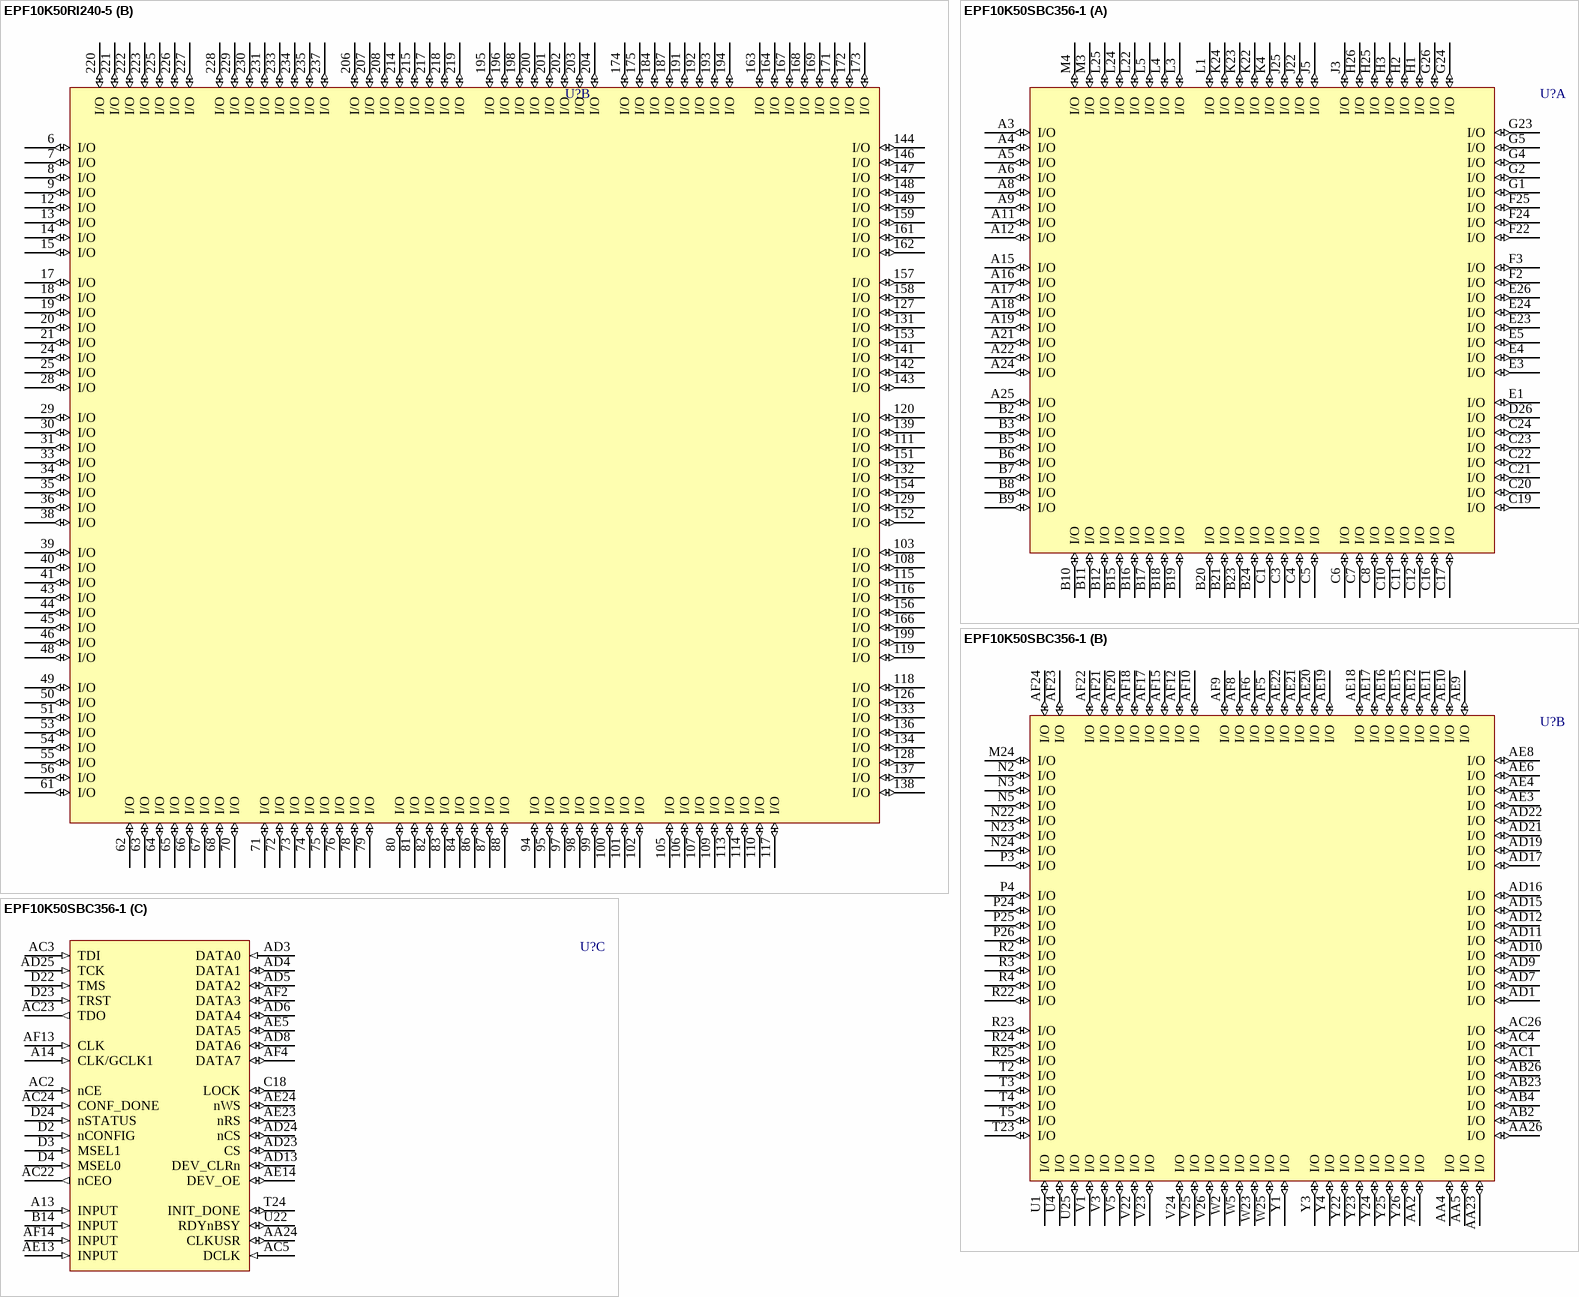
[diagram p121: symbols EPF10K50RI240-5 to EPF10K50SBC356-1]

## EPF10K50RI240-5
designator U?
FLEX EPF10K50 5.0V Embedded PLD, 189 User IO Pins, 240-Pin RQFP, Speed Grade 5, Industrial Grade; Published: 24-Nov-2000; LatestRevisionDate: 13-Apr-2006; LatestRevisionNote: IPC-7351 Footprint Added.; DatasheetVersion: Jun-1996; PackageVersion: ver14.1, Oct-2005; PackageReference: RQFP240; Publisher: Altium Limited; PackageDescription: 240-Pin Power Quad Flat Pack (RQFP240); Code_JEDEC: MS-029-GA; ComponentLink1Description: Manufacturer Link; ComponentLink1URL: http://www.altera.com/products/devices/flex10k/f10-index.html; ComponentLink2Description: Datasheet; ComponentLink2URL: http://www.altera.com/literature/ds/dsf10k.pdf
footprint RQFP240_N (Shrink QFP, 240-Leads, Body 32x32mm, Pitch 0.5mm, IPC Medium Density)
footprint RQFP240_L (Shrink QFP, 240-Leads, Body 32x32mm, Pitch 0.5mm, IPC High Density)
footprint RQFP240_M (Shrink QFP, 240-Leads, Body 32x32mm, Pitch 0.5mm, IPC Low Density)
3D model EPF10K50-RQFP240 (240-Pin Power Quad Flat Pack (RQFP240))
part A pins: 1 TCK (in), 2 CONF_DONE (in), 3 nCEO (out), 4 TDO (out), 5 VCCINT (power), 10 GNDINT (power), 11 CLKUSR (io), 16 VCCINT (power), 22 GNDINT (power), 23 RDYnBUSY (io), 26 INIT_DONE (io), 27 VCCINT (power), 32 GNDINT (power), 37 VCCINT (power), 42 GNDINT (power), 47 VCCINT (power), 52 GNDINT (power), 57 VCCINT (power), 58 TMS (in), 59 TRST (in), 60 nSTATUS (in), 69 GNDINT (power), 77 VCCINT (power), 85 GNDINT (power), 89 VCCINT (power), 90 IN (in), 91 CLK (in), 92 IN (in), 93 GNDINT (power), 96 VCCINT (power), 104 GNDINT (power), 112 VCCINT (power), 121 nCONFIG (in), 122 VCCINT (power), 123 MSEL1 (in), 124 MSEL0 (in), 125 GNDINT (power), 130 VCCINT (power), 135 GNDINT (power), 140 VCCINT (power), 145 GNDINT (power), 150 VCCINT (power), 155 GNDINT (power), 160 VCCINT (power), 165 GNDINT (power), 170 VCCINT (power), 176 GNDINT (power), 177 TDI (in), 178 nCE (in), 179 DCLK (in), 180 DATA0 (in), 181 DATA1 (io), 182 DATA2 (io), 183 DATA3 (io), 185 DATA4 (io), 186 DATA5 (io), 188 DATA6 (io), 189 VCCINT (power), 190 DATA7 (io), 197 GNDINT (power), 205 VCCINT (power), 209 DEV_CLRn (io), 210 IN (in), 211 CLK (in), 212 IN (in), 213 DEV_OE (io), 216 GNDINT (power), 224 VCCINT (power), 232 GNDINT (power), 236 nRS (io), 238 nWS (io), 239 CS (io), 240 nCS (io)
part B pins: 6 I/O (io), 7 I/O (io), 8 I/O (io), 9 I/O (io), 12 I/O (io), 13 I/O (io), 14 I/O (io), 15 I/O (io), 17 I/O (io), 18 I/O (io), 19 I/O (io), 20 I/O (io), 21 I/O (io), 24 I/O (io), 25 I/O (io), 28 I/O (io), 29 I/O (io), 30 I/O (io), 31 I/O (io), 33 I/O (io), 34 I/O (io), 35 I/O (io), 36 I/O (io), 38 I/O (io), 39 I/O (io), 40 I/O (io), 41 I/O (io), 43 I/O (io), 44 I/O (io), 45 I/O (io), 46 I/O (io), 48 I/O (io), 49 I/O (io), 50 I/O (io), 51 I/O (io), 53 I/O (io), 54 I/O (io), 55 I/O (io), 56 I/O (io), 61 I/O (io), 62 I/O (io), 63 I/O (io), 64 I/O (io), 65 I/O (io), 66 I/O (io), 67 I/O (io), 68 I/O (io), 70 I/O (io), 71 I/O (io), 72 I/O (io), 73 I/O (io), 74 I/O (io), 75 I/O (io), 76 I/O (io), 78 I/O (io), 79 I/O (io), 80 I/O (io), 81 I/O (io), 82 I/O (io), 83 I/O (io), 84 I/O (io), 86 I/O (io), 87 I/O (io), 88 I/O (io), 94 I/O (io), 95 I/O (io), 97 I/O (io), 98 I/O (io), 99 I/O (io), 100 I/O (io), 101 I/O (io), 102 I/O (io), 103 I/O (io), 105 I/O (io), 106 I/O (io), 107 I/O (io), 108 I/O (io), 109 I/O (io), 110 I/O (io), 111 I/O (io), 113 I/O (io), 114 I/O (io), 115 I/O (io), 116 I/O (io), 117 I/O (io), 118 I/O (io), 119 I/O (io), 120 I/O (io), 126 I/O (io), 127 I/O (io), 128 I/O (io), 129 I/O (io), 131 I/O (io), 132 I/O (io), 133 I/O (io), 134 I/O (io), 136 I/O (io), 137 I/O (io), 138 I/O (io), 139 I/O (io), 141 I/O (io), 142 I/O (io), 143 I/O (io), 144 I/O (io), 146 I/O (io), 147 I/O (io), 148 I/O (io), 149 I/O (io), 151 I/O (io), 152 I/O (io), 153 I/O (io), 154 I/O (io), 156 I/O (io), 157 I/O (io), 158 I/O (io), 159 I/O (io), 161 I/O (io), 162 I/O (io), 163 I/O (io), 164 I/O (io), 166 I/O (io), 167 I/O (io), 168 I/O (io), 169 I/O (io), 171 I/O (io), 172 I/O (io), 173 I/O (io), 174 I/O (io), 175 I/O (io), 184 I/O (io), 187 I/O (io), 191 I/O (io), 192 I/O (io), 193 I/O (io), 194 I/O (io), 195 I/O (io), 196 I/O (io), 198 I/O (io), 199 I/O (io), 200 I/O (io), 201 I/O (io), 202 I/O (io), 203 I/O (io), 204 I/O (io), 206 I/O (io), 207 I/O (io), 208 I/O (io), 214 I/O (io), 215 I/O (io), 217 I/O (io), 218 I/O (io), 219 I/O (io), 220 I/O (io), 221 I/O (io), 222 I/O (io), 223 I/O (io), 225 I/O (io), 226 I/O (io), 227 I/O (io), 228 I/O (io), 229 I/O (io), 230 I/O (io), 231 I/O (io), 233 I/O (io), 234 I/O (io), 235 I/O (io), 237 I/O (io)

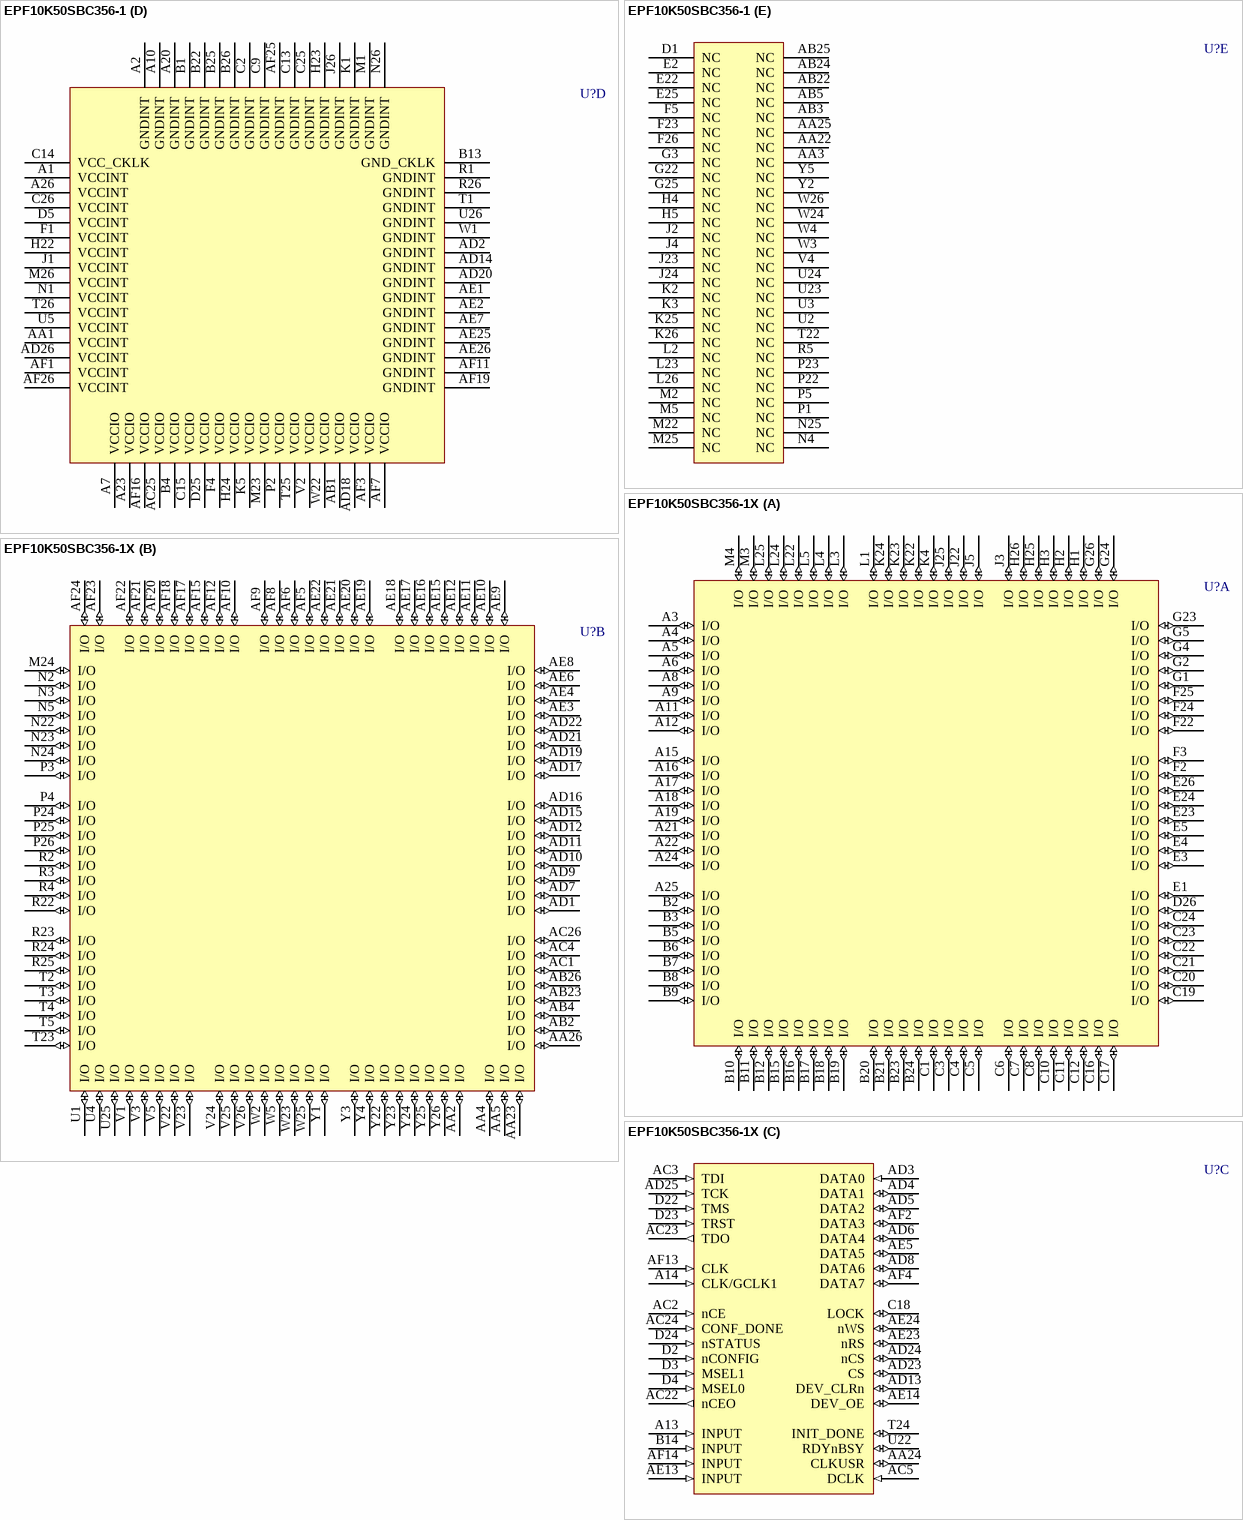
[diagram p122: symbols EPF10K50SBC356-1 to EPF10K50SBC356-1X]

## EPF10K50SBC356-1
designator U?
FLEX EPF10K50S 2.5V Embedded PLD, 220 User IO Pins, 356-Pin BGA, Speed Grade 1, Commercial Grade; Published: 17-Jul-2002; LatestRevisionDate: 13-Apr-2006; LatestRevisionNote: IPC-7351 Footprint Added.; DatasheetVersion: ver4.2, Jan-2003; PackageVersion: ver14.1, Oct-2005; PackageReference: BGA356; Publisher: Altium Limited; PackageDescription: 356-Ball Ball Grid Array (BGA356); Code_JEDEC: MO-192-BAR-2; ComponentLink1Description: Manufacturer Link; ComponentLink1URL: http://www.altera.com/products/devices/flex10k/f10-index.html; ComponentLink2Description: Datasheet; ComponentLink2URL: http://www.altera.com/literature/ds/dsf10ke.pdf
footprint BGA356 (BGA, 356-Leads, Body 35x35mm, Pitch 1.27mm)
3D model EPF10K50S-BGA356 (356-Ball Ball Grid Array (BGA356))
part A pins: A3 I/O (io), A4 I/O (io), A5 I/O (io), A6 I/O (io), A8 I/O (io), A9 I/O (io), A11 I/O (io), A12 I/O (io), A15 I/O (io), A16 I/O (io), A17 I/O (io), A18 I/O (io), A19 I/O (io), A21 I/O (io), A22 I/O (io), A24 I/O (io), A25 I/O (io), B2 I/O (io), B3 I/O (io), B5 I/O (io), B6 I/O (io), B7 I/O (io), B8 I/O (io), B9 I/O (io), B10 I/O (io), B11 I/O (io), B12 I/O (io), B15 I/O (io), B16 I/O (io), B17 I/O (io), B18 I/O (io), B19 I/O (io), B20 I/O (io), B21 I/O (io), B23 I/O (io), B24 I/O (io), C1 I/O (io), C3 I/O (io), C4 I/O (io), C5 I/O (io), C6 I/O (io), C7 I/O (io), C8 I/O (io), C10 I/O (io), C11 I/O (io), C12 I/O (io), C16 I/O (io), C17 I/O (io), C19 I/O (io), C20 I/O (io), C21 I/O (io), C22 I/O (io), C23 I/O (io), C24 I/O (io), D26 I/O (io), E1 I/O (io), E3 I/O (io), E4 I/O (io), E5 I/O (io), E23 I/O (io), E24 I/O (io), E26 I/O (io), F2 I/O (io), F3 I/O (io), F22 I/O (io), F24 I/O (io), F25 I/O (io), G1 I/O (io), G2 I/O (io), G4 I/O (io), G5 I/O (io), G23 I/O (io), G24 I/O (io), G26 I/O (io), H1 I/O (io), H2 I/O (io), H3 I/O (io), H25 I/O (io), H26 I/O (io), J3 I/O (io), J5 I/O (io), J22 I/O (io), J25 I/O (io), K4 I/O (io), K22 I/O (io), K23 I/O (io), K24 I/O (io), L1 I/O (io), L3 I/O (io), L4 I/O (io), L5 I/O (io), L22 I/O (io), L24 I/O (io), L25 I/O (io), M3 I/O (io), M4 I/O (io)
part B pins: AA2 I/O (io), AA4 I/O (io), AA5 I/O (io), AA23 I/O (io), AA26 I/O (io), AB2 I/O (io), AB4 I/O (io), AB23 I/O (io), AB26 I/O (io), AC1 I/O (io), AC4 I/O (io), AC26 I/O (io), AD1 I/O (io), AD7 I/O (io), AD9 I/O (io), AD10 I/O (io), AD11 I/O (io), AD12 I/O (io), AD15 I/O (io), AD16 I/O (io), AD17 I/O (io), AD19 I/O (io), AD21 I/O (io), AD22 I/O (io), AE3 I/O (io), AE4 I/O (io), AE6 I/O (io), AE8 I/O (io), AE9 I/O (io), AE10 I/O (io), AE11 I/O (io), AE12 I/O (io), AE15 I/O (io), AE16 I/O (io), AE17 I/O (io), AE18 I/O (io), AE19 I/O (io), AE20 I/O (io), AE21 I/O (io), AE22 I/O (io), AF5 I/O (io), AF6 I/O (io), AF8 I/O (io), AF9 I/O (io), AF10 I/O (io), AF12 I/O (io), AF15 I/O (io), AF17 I/O (io), AF18 I/O (io), AF20 I/O (io), AF21 I/O (io), AF22 I/O (io), AF23 I/O (io), AF24 I/O (io), M24 I/O (io), N2 I/O (io), N3 I/O (io), N5 I/O (io), N22 I/O (io), N23 I/O (io), N24 I/O (io), P3 I/O (io), P4 I/O (io), P24 I/O (io), P25 I/O (io), P26 I/O (io), R2 I/O (io), R3 I/O (io), R4 I/O (io), R22 I/O (io), R23 I/O (io), R24 I/O (io), R25 I/O (io), T2 I/O (io), T3 I/O (io), T4 I/O (io), T5 I/O (io), T23 I/O (io), U1 I/O (io), U4 I/O (io), U25 I/O (io), V1 I/O (io), V3 I/O (io), V5 I/O (io), V22 I/O (io), V23 I/O (io), V24 I/O (io), V25 I/O (io), V26 I/O (io), W2 I/O (io), W5 I/O (io), W23 I/O (io), W25 I/O (io), Y1 I/O (io), Y3 I/O (io), Y4 I/O (io), Y22 I/O (io), Y23 I/O (io), Y24 I/O (io), Y25 I/O (io), Y26 I/O (io)
part C pins: A13 INPUT (in), A14 CLK/GCLK1 (in), AA24 CLKUSR (io), AC2 nCE (in), AC3 TDI (in), AC5 DCLK (in), AC22 nCEO (out), AC23 TDO (out), AC24 CONF_DONE (in), AD3 DATA0 (in), AD4 DATA1 (io), AD5 DATA2 (io), AD6 DATA4 (io), AD8 DATA6 (io), AD13 DEV_CLRn (io), AD23 CS (io), AD24 nCS (io), AD25 TCK (in), AE5 DATA5 (io), AE13 INPUT (in), AE14 DEV_OE (io), AE23 nRS (io), AE24 nWS (io), AF2 DATA3 (io), AF4 DATA7 (io), AF13 CLK (in), AF14 INPUT (in), B14 INPUT (in), C18 LOCK (io), D2 nCONFIG (in), D3 MSEL1 (in), D4 MSEL0 (in), D22 TMS (in), D23 TRST (in), D24 nSTATUS (in), T24 INIT_DONE (io), U22 RDYnBSY (io)
part D pins: A1 VCCINT (power), A2 GNDINT (power), A7 VCCIO (power), A10 GNDINT (power), A20 GNDINT (power), A23 VCCIO (power), A26 VCCINT (power), AA1 VCCINT (power), AB1 VCCIO (power), AC25 VCCIO (power), AD2 GNDINT (power), AD14 GNDINT (power), AD18 VCCIO (power), AD20 GNDINT (power), AD26 VCCINT (power), AE1 GNDINT (power), AE2 GNDINT (power), AE7 GNDINT (power), AE25 GNDINT (power), AE26 GNDINT (power), AF1 VCCINT (power), AF3 VCCIO (power), AF7 VCCIO (power), AF11 GNDINT (power), AF16 VCCIO (power), AF19 GNDINT (power), AF25 GNDINT (power), AF26 VCCINT (power), B1 GNDINT (power), B4 VCCIO (power), B13 GND_CKLK (power), B22 GNDINT (power), B25 GNDINT (power), B26 GNDINT (power), C2 GNDINT (power), C9 GNDINT (power), C13 GNDINT (power), C14 VCC_CKLK (power), C15 VCCIO (power), C25 GNDINT (power), C26 VCCINT (power), D5 VCCINT (power), D25 VCCIO (power), F1 VCCINT (power), F4 VCCIO (power), H22 VCCINT (power), H23 GNDINT (power), H24 VCCIO (power), J1 VCCINT (power), J26 GNDINT (power), K1 GNDINT (power), K5 VCCIO (power), M1 GNDINT (power), M23 VCCIO (power), M26 VCCINT (power), N1 VCCINT (power), N26 GNDINT (power), P2 VCCIO (power), R1 GNDINT (power), R26 GNDINT (power), T1 GNDINT (power), T25 VCCIO (power), T26 VCCINT (power), U5 VCCINT (power), U26 GNDINT (power), V2 VCCIO (power), W1 GNDINT (power), W22 VCCIO (power)
part E pins: AA3 NC, AA22 NC, AA25 NC, AB3 NC, AB5 NC, AB22 NC, AB24 NC, AB25 NC, D1 NC, E2 NC, E22 NC, E25 NC, F5 NC, F23 NC, F26 NC, G3 NC, G22 NC, G25 NC, H4 NC, H5 NC, J2 NC, J4 NC, J23 NC, J24 NC, K2 NC, K3 NC, K25 NC, K26 NC, L2 NC, L23 NC, L26 NC, M2 NC, M5 NC, M22 NC, M25 NC, N4 NC, N25 NC, P1 NC, P5 NC, P22 NC, P23 NC, R5 NC, T22 NC, U2 NC, U3 NC, U23 NC, U24 NC, V4 NC, W3 NC, W4 NC, W24 NC, W26 NC, Y2 NC, Y5 NC

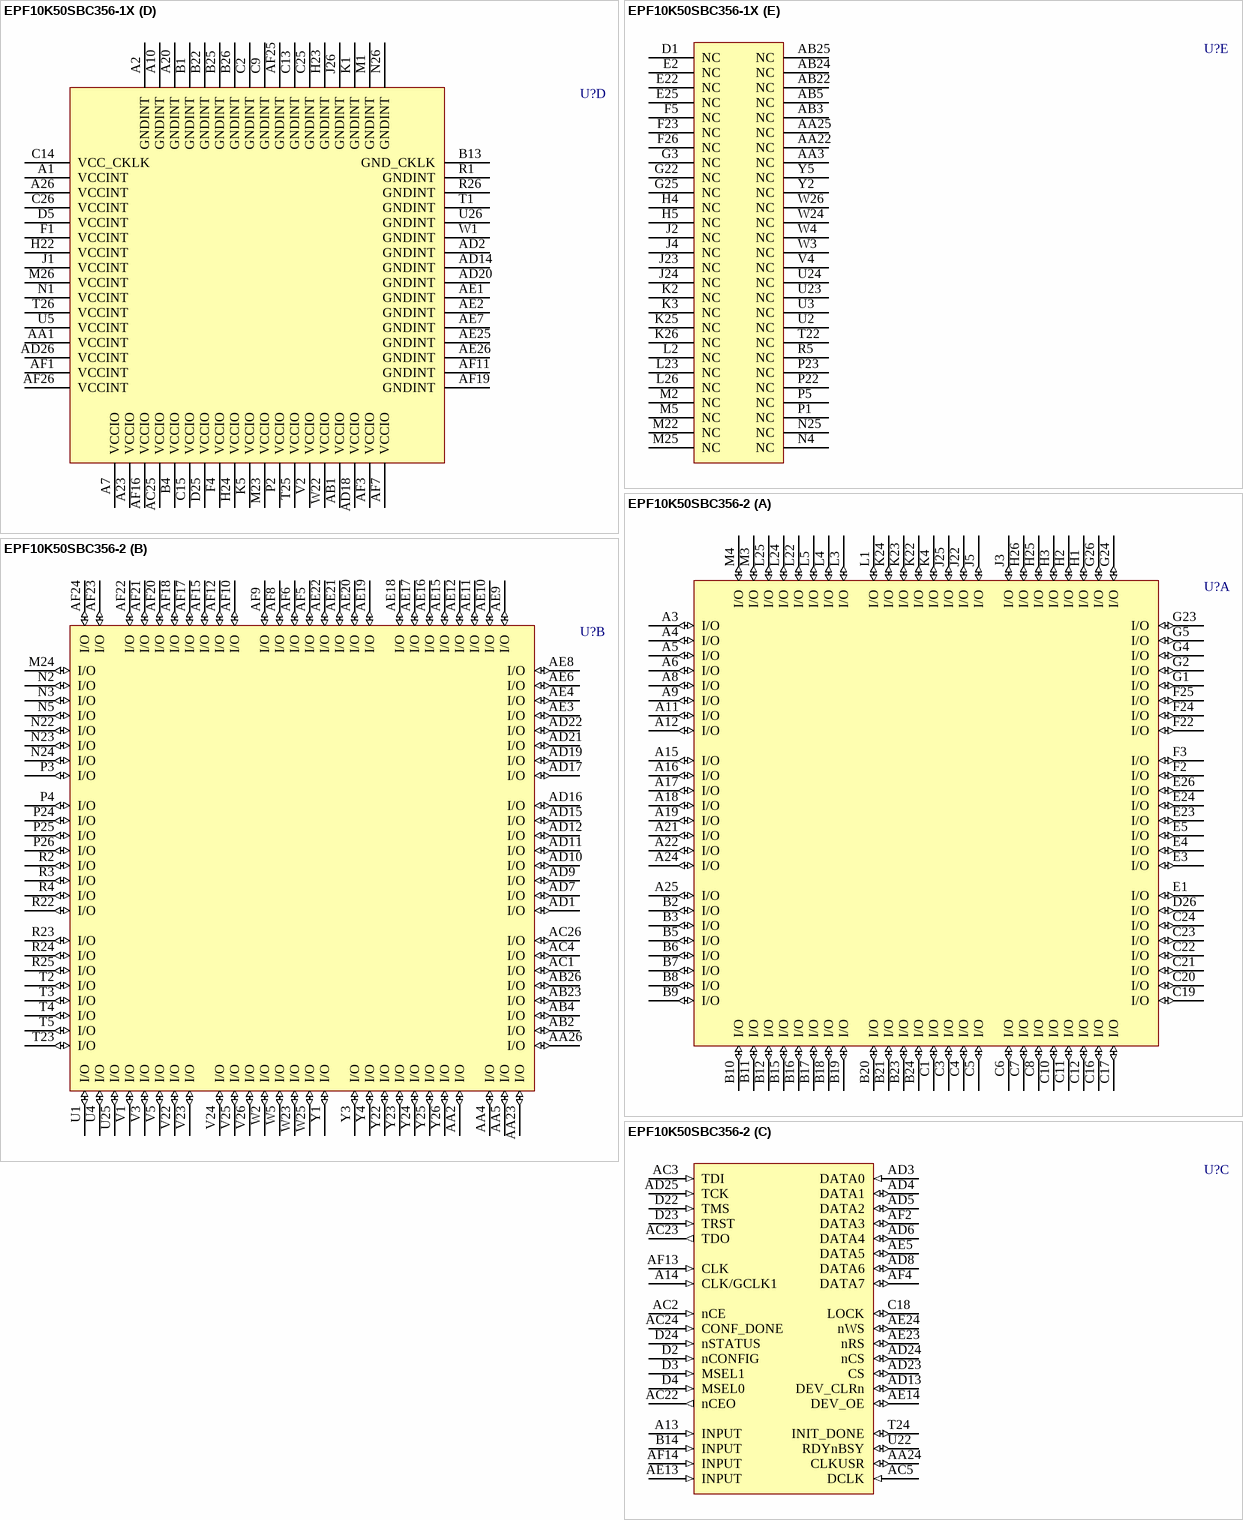
[diagram p123: symbols EPF10K50SBC356-1X to EPF10K50SBC356-2]